# Altium integrated library CDE_Library.IntLib: 6171 symbols (part 19 of 25)
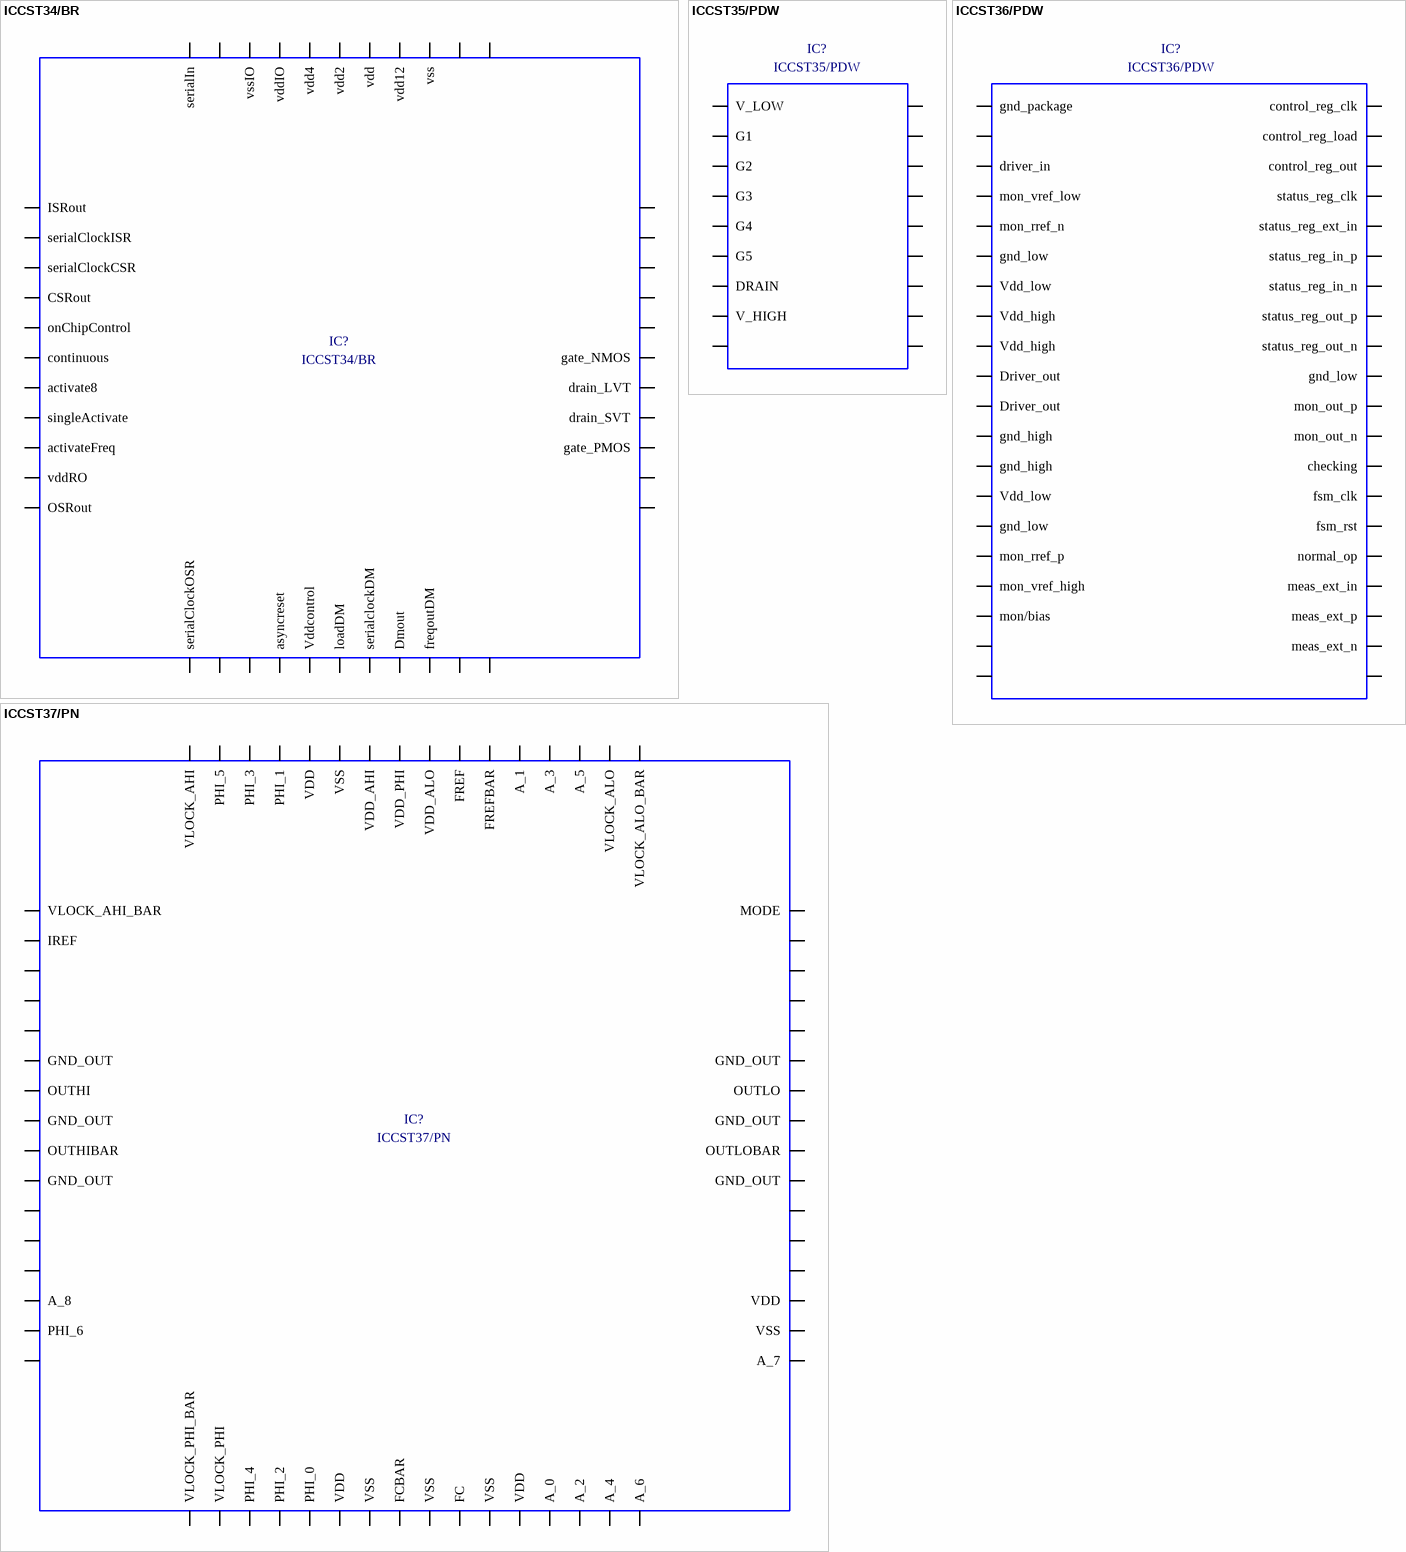
[diagram p275: symbols ICCST34/BR to ICCST37/PN]

## ICCST34/BR
designator IC?
ref. Bram Roseleer; Part Number: ICCST34/BR; Component Kind: Standard; Component Type: Standard; Designator: ICCST34/BR; Footprint: icv LCC/.1/44 (Yamaichi IC530444306); Library Reference: ICCST34/BR; Pin Count: 44
footprint icv LCC/.1/44 (Yamaichi IC530444306)
pins: 1 vdd2, 2 vdd4, 3 vddIO, 4 vssIO, 5, 6 serialIn, 7 ISRout, 8 serialClockISR, 9 serialClockCSR, 10 CSRout, 11 onChipControl, 12 continuous, 13 activate8, 14 singleActivate, 15 activateFreq, 16 vddRO, 17 OSRout, 18 serialClockOSR, 19, 20, 21 asyncreset, 22 Vddcontrol, 23 loadDM, 24 serialclockDM, 25 Dmout, 26 freqoutDM, 27, 28, 29, 30, 31 gate_PMOS, 32 drain_SVT, 33 drain_LVT, 34 gate_NMOS, 35, 36, 37, 38, 39, 40, 41, 42 vss, 43 vdd12, 44 vdd

## ICCST35/PDW
designator IC?
ref. Pieter De Wit; Part Number: ICCST35/PDW; Component Kind: Standard; Component Type: Standard; Designator: ICCST35/PDW; Footprint: icv DIP18-300 (3M Textool zif); Library Reference: ICCST35/PDW; Pin Count: 18
footprint icv DIP18-300 (3M Textool zif)
pins: 1 V_LOW, 2 G1, 3 G2, 4 G3, 5 G4, 6 G5, 7 DRAIN, 8 V_HIGH, 9, 10, 11, 12, 13, 14, 15, 16, 17, 18

## ICCST36/PDW
designator IC?
ref. Pieter De Wit; Part Number: ICCST36/PDW; Component Kind: Standard; Component Type: Standard; Designator: ICCST36/PDW; Footprint: icv DIP40-600 (Aries Zif 40-6554-10); Library Reference: ICCST36/PDW; Pin Count: 40
footprint icv DIP40-600 (Aries Zif 40-6554-10)
pins: 1 gnd_package, 2, 3 driver_in, 4 mon_vref_low, 5 mon_rref_n, 6 gnd_low, 7 Vdd_low, 8 Vdd_high, 9 Vdd_high, 10 Driver_out, 11 Driver_out, 12 gnd_high, 13 gnd_high, 14 Vdd_low, 15 gnd_low, 16 mon_rref_p, 17 mon_vref_high, 18 mon/bias, 19, 20, 21, 22 meas_ext_n, 23 meas_ext_p, 24 meas_ext_in, 25 normal_op, 26 fsm_rst, 27 fsm_clk, 28 checking, 29 mon_out_n, 30 mon_out_p, 31 gnd_low, 32 status_reg_out_n, 33 status_reg_out_p, 34 status_reg_in_n, 35 status_reg_in_p, 36 status_reg_ext_in, 37 status_reg_clk, 38 control_reg_out, 39 control_reg_load, 40 control_reg_clk

## ICCST37/PN
designator IC?
ref. Pieter Nuyts; Part Number: ICCST37/PN; Component Kind: Standard; Component Type: Standard; Designator: ICCST37/PN; Footprint: icv QFP/0.8mm/64 (Yamaichi IC510644692); Library Reference: ICCST37/PN; Pin Count: 64
footprint icv QFP/0.8mm/64 (Yamaichi IC510644692)
pins: 1 VLOCK_PHI_BAR, 2 VLOCK_PHI, 3 PHI_4, 4 PHI_2, 5 PHI_0, 6 VDD, 7 VSS, 8 FCBAR, 9 VSS, 10 FC, 11 VSS, 12 VDD, 13 A_0, 14 A_2, 15 A_4, 16 A_6, 17 A_7, 18 VSS, 19 VDD, 20, 21, 22, 23 GND_OUT, 24 OUTLOBAR, 25 GND_OUT, 26 OUTLO, 27 GND_OUT, 28, 29, 30, 31, 32 MODE, 33 VLOCK_ALO_BAR, 34 VLOCK_ALO, 35 A_5, 36 A_3, 37 A_1, 38 FREFBAR, 39 FREF, 40 VDD_ALO, 41 VDD_PHI, 42 VDD_AHI, 43 VSS, 44 VDD, 45 PHI_1, 46 PHI_3, 47 PHI_5, 48 VLOCK_AHI, 49 VLOCK_AHI_BAR, 50 IREF, 51, 52, 53, 54 GND_OUT, 55 OUTHI, 56 GND_OUT, 57 OUTHIBAR, 58 GND_OUT, 59, 60, 61, 62 A_8, 63 PHI_6, 64

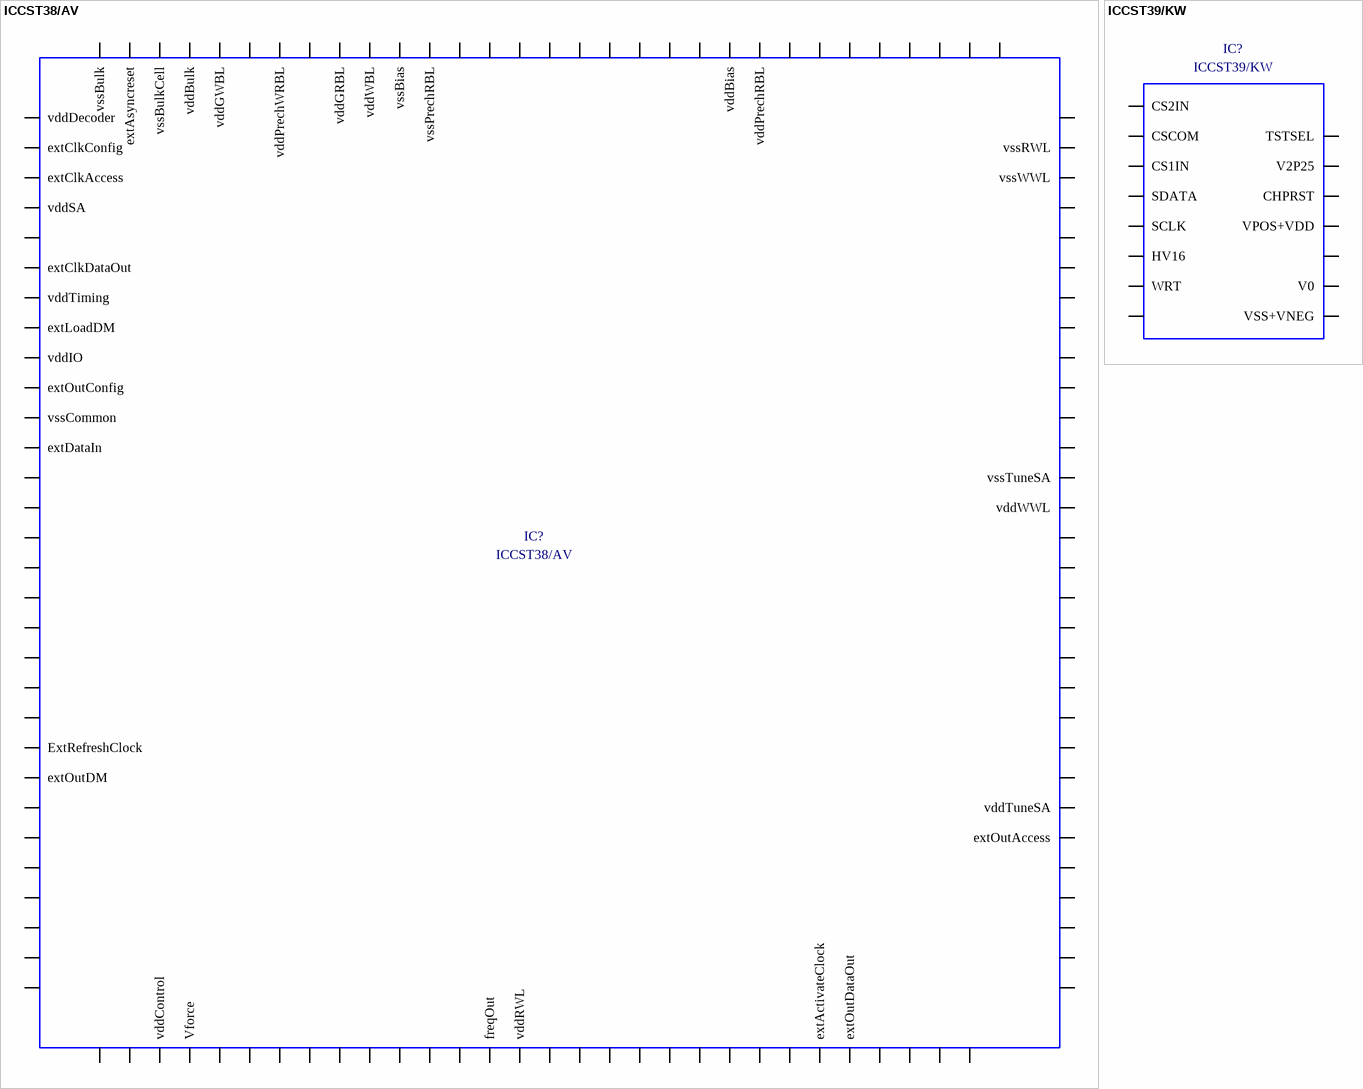
[diagram p214: symbols ICCST38/AV to ICCST39/KW]

## ICCST38/AV
designator IC?
ref. Anselme Vignon; Part Number: ICCST38/AV; Component Kind: Standard; Component Type: Standard; Designator: ICCST38/AV; Footprint: icv PGA/ZIF/.1/121 (Yamaichi NP89-12110-G4BF); Library Reference: ICCST38/AV; Pin Count: 121
footprint icv PGA/ZIF/.1/121 (Yamaichi NP89-12110-G4BF)
pins: 1 vddDecoder, 2 extClkConfig, 3 extClkAccess, 4 vddSA, 5, 6 extClkDataOut, 7 vddTiming, 8 extLoadDM, 9 vddIO, 10 extOutConfig, 11 vssCommon, 12 extDataIn, 13, 14, 15, 16, 17, 18, 19, 20, 21, 22 ExtRefreshClock, 23 extOutDM, 24, 25, 26, 27, 28, 29, 30, 31, 32, 33 vddControl, 34 Vforce, 35, 36, 37, 38, 39, 40, 41, 42, 43, 44 freqOut, 45 vddRWL, 46, 47, 48, 49, 50, 51, 52, 53, 54, 55 extActivateClock, 56 extOutDataOut, 57, 58, 59, 60, 61, 62, 63, 64, 65, 66 extOutAccess, 67 vddTuneSA, 68, 69, 70, 71, 72, 73, 74, 75, 76, 77 vddWWL, 78 vssTuneSA, 79, 80, 81, 82, 83, 84, 85, 86, 87, 88 vssWWL, 89 vssRWL, 90, 91, 92, 93, 94, 95, 96, 97, 98, 99 vddPrechRBL, 100 vddBias, 101, 102, 103, 104, 105, 106, 107, 108, 109, 110 vssPrechRBL, 111 vssBias, 112 vddWBL, 113 vddGRBL, 114, 115 vddPrechWRBL, 116, 117 vddGWBL, 118 vddBulk, 119 vssBulkCell, 120 extAsyncreset, 121 vssBulk

## ICCST39/KW
designator IC?
ref. Kristof Wouters; Part Number: ICCST39/KW; Component Kind: Standard; Component Type: Standard; Designator: ICCST39/KW; Footprint: smd ICCST39; Library Reference: ICCST39/KW; Pin Count: 15
footprint smd ICCST39
pins: 1 CS2IN, 2 CSCOM, 3 CS1IN, 4 SDATA, 5 SCLK, 6 HV16, 7 WRT, 8, 9 VSS+VNEG, 10 V0, 11, 12 VPOS+VDD, 13 CHPRST, 14 V2P25, 15 TSTSEL

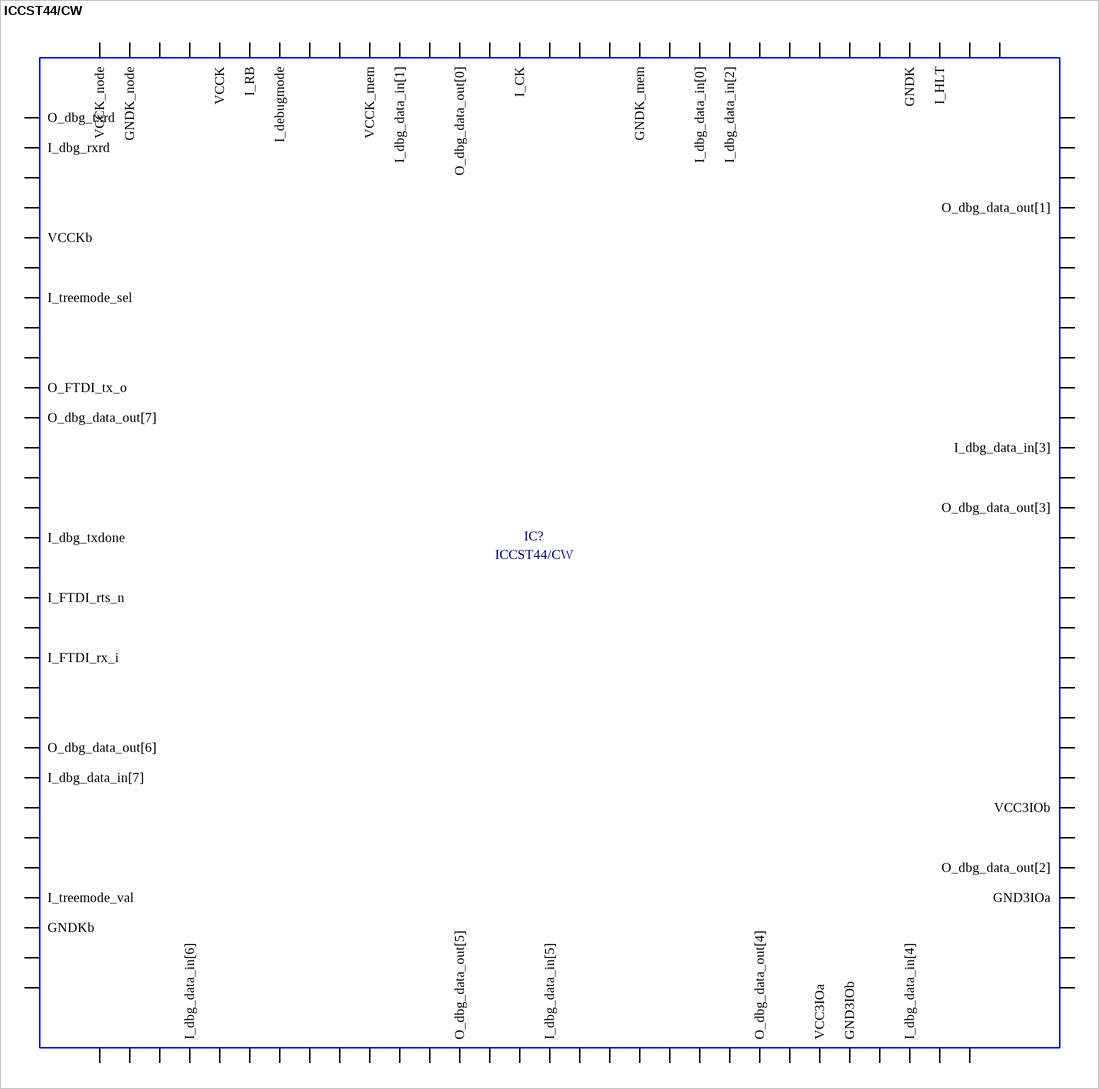
[diagram p215: symbol ICCST44/CW]

## ICCST44/CW
designator IC?
ref. Cedric Walravens; Part Number: ICCST44/CW; Component Kind: Standard; Component Type: Standard; Designator: ICCST44/CW; Footprint: icv PGA/ZIF/.1/121 (Yamaichi NP89-12110-G4BF); Library Reference: ICCST44/CW; Pin Count: 121
footprint icv PGA/ZIF/.1/121 (Yamaichi NP89-12110-G4BF)
pins: 1 O_dbg_txrd, 2 I_dbg_rxrd, 3, 4, 5 VCCKb, 6, 7 I_treemode_sel, 8, 9, 10 O_FTDI_tx_o, 11 O_dbg_data_out[7], 12, 13, 14, 15 I_dbg_txdone, 16, 17 I_FTDI_rts_n, 18, 19 I_FTDI_rx_i, 20, 21, 22 O_dbg_data_out[6], 23 I_dbg_data_in[7], 24, 25, 26, 27 I_treemode_val, 28 GNDKb, 29, 30, 31, 32, 33, 34 I_dbg_data_in[6], 35, 36, 37, 38, 39, 40, 41, 42, 43 O_dbg_data_out[5], 44, 45, 46 I_dbg_data_in[5], 47, 48, 49, 50, 51, 52, 53 O_dbg_data_out[4], 54, 55 VCC3IOa, 56 GND3IOb, 57, 58 I_dbg_data_in[4], 59, 60, 61, 62, 63, 64 GND3IOa, 65 O_dbg_data_out[2], 66, 67 VCC3IOb, 68, 69, 70, 71, 72, 73, 74, 75, 76, 77 O_dbg_data_out[3], 78, 79 I_dbg_data_in[3], 80, 81, 82, 83, 84, 85, 86, 87 O_dbg_data_out[1], 88, 89, 90, 91, 92, 93 I_HLT, 94 GNDK, 95, 96, 97, 98, 99, 100 I_dbg_data_in[2], 101 I_dbg_data_in[0], 102, 103 GNDK_mem, 104, 105, 106, 107 I_CK, 108, 109 O_dbg_data_out[0], 110, 111 I_dbg_data_in[1], 112 VCCK_mem, 113, 114, 115 I_debugmode, 116 I_RB, 117 VCCK, 118, 119, 120 GNDK_node, 121 VCCK_node

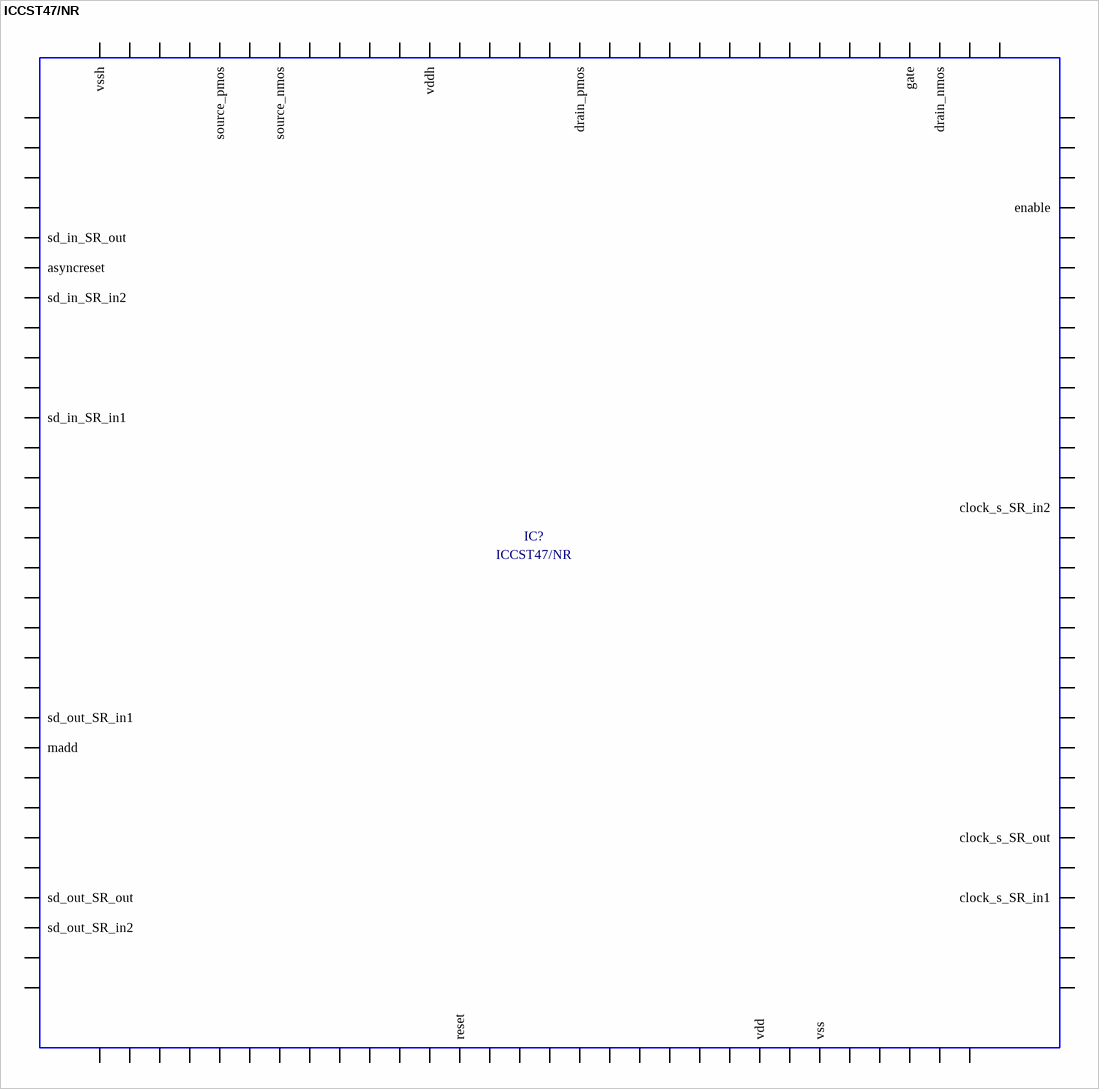
[diagram p216: symbol ICCST47/NR]

## ICCST47/NR
designator IC?
ref. Nele Reynders; Part Number: ICCST47/NR; Component Kind: Standard; Component Type: Standard; Designator: ICCST47/NR; Footprint: icv PGA/ZIF/.1/121 (Yamaichi NP89-12110-G4BF); Library Reference: ICCST47/NR; Pin Count: 121
footprint icv PGA/ZIF/.1/121 (Yamaichi NP89-12110-G4BF)
pins: 1, 2, 3, 4, 5 sd_in_SR_out, 6 asyncreset, 7 sd_in_SR_in2, 8, 9, 10, 11 sd_in_SR_in1, 12, 13, 14, 15, 16, 17, 18, 19, 20, 21 sd_out_SR_in1, 22 madd, 23, 24, 25, 26, 27 sd_out_SR_out, 28 sd_out_SR_in2, 29, 30, 31, 32, 33, 34, 35, 36, 37, 38, 39, 40, 41, 42, 43 reset, 44, 45, 46, 47, 48, 49, 50, 51, 52, 53 vdd, 54, 55 vss, 56, 57, 58, 59, 60, 61, 62, 63, 64 clock_s_SR_in1, 65, 66 clock_s_SR_out, 67, 68, 69, 70, 71, 72, 73, 74, 75, 76, 77 clock_s_SR_in2, 78, 79, 80, 81, 82, 83, 84, 85, 86, 87 enable, 88, 89, 90, 91, 92, 93 drain_nmos, 94 gate, 95, 96, 97, 98, 99, 100, 101, 102, 103, 104, 105 drain_pmos, 106, 107, 108, 109, 110 vddh, 111, 112, 113, 114, 115 source_nmos, 116, 117 source_pmos, 118, 119, 120, 121 vssh

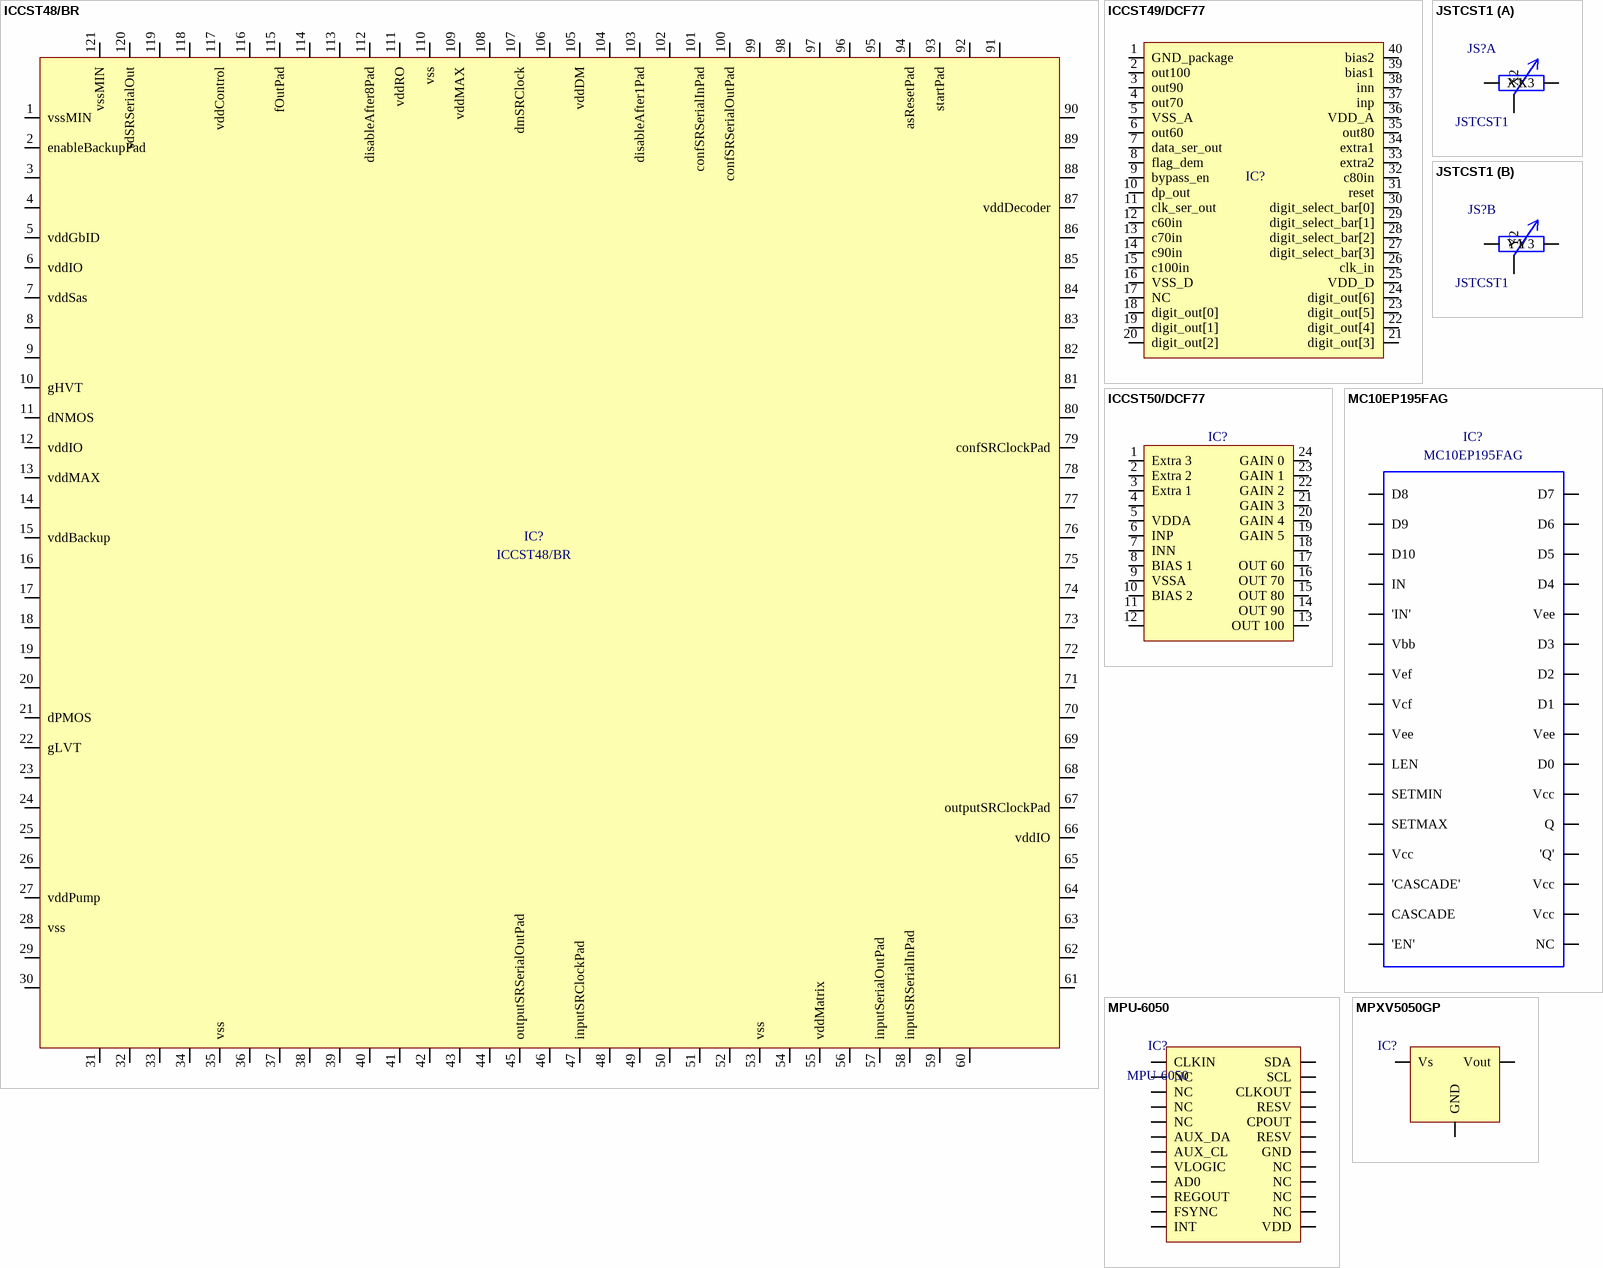
[diagram p217: symbols ICCST48/BR to MPXV5050GP]

## ICCST48/BR
designator IC?
ref. Bram Rooseleer; Part Number: ICCST38/AV; Component Kind: Standard; Component Type: Standard; Designator: ICCST38/AV; Footprint: icv PGA/ZIF/.1/121 (Yamaichi NP89-12110-G4BF); Library Reference: ICCST38/AV; Pin Count: 121
footprint icv PGA/ZIF/.1/121 (Yamaichi NP89-12110-G4BF)
pins: 1 vssMIN, 2 enableBackupPad, 3, 4, 5 vddGbID, 6 vddIO, 7 vddSas, 8, 9, 10 gHVT, 11 dNMOS, 12 vddIO, 13 vddMAX, 14, 15 vddBackup, 16, 17, 18, 19, 20, 21 dPMOS, 22 gLVT, 23, 24, 25, 26, 27 vddPump, 28 vss, 29, 30, 31, 32, 33, 34, 35 vss, 36, 37, 38, 39, 40, 41, 42, 43, 44, 45 outputSRSerialOutPad, 46, 47 inputSRClockPad, 48, 49, 50, 51, 52, 53 vss, 54, 55 vddMatrix, 56, 57 inputSerialOutPad, 58 inputSRSerialInPad, 59, 60, 61, 62, 63, 64, 65, 66 vddIO, 67 outputSRClockPad, 68, 69, 70, 71, 72, 73, 74, 75, 76, 77, 78, 79 confSRClockPad, 80, 81, 82, 83, 84, 85, 86, 87 vddDecoder, 88, 89, 90, 91, 92, 93 startPad, 94 asResetPad, 95, 96, 97, 98, 99, 100 confSRSerialOutPad, 101 confSRSerialInPad, 102, 103 disableAfter1Pad, 104, 105 vddDM, 106, 107 dmSRClock, 108, 109 vddMAX, 110 vss, 111 vddRO, 112 disableAfter8Pad, 113, 114, 115 fOutPad, 116, 117 vddControl, 118, 119, 120 sdSRSerialOut, 121 vssMIN

## ICCST49/DCF77
designator IC?  (value not drawn)
ref. Bram Rooseleer
footprint icv DIP40-600
pins: 1 GND_package, 2 out100, 3 out90, 4 out70, 5 VSS_A, 6 out60, 7 data_ser_out, 8 flag_dem, 9 bypass_en, 10 dp_out, 11 clk_ser_out, 12 c60in, 13 c70in, 14 c90in, 15 c100in, 16 VSS_D, 17 NC, 18 digit_out[0], 19 digit_out[1], 20 digit_out[2], 21 digit_out[3], 22 digit_out[4], 23 digit_out[5], 24 digit_out[6], 25 VDD_D, 26 clk_in, 27 digit_select_bar[3], 28 digit_select_bar[2], 29 digit_select_bar[1], 30 digit_select_bar[0], 31 reset, 32 c80in, 33 extra2, 34 extra1, 35 out80, 36 VDD_A, 37 inp, 38 inn, 39 bias1, 40 bias2

## ICCST50/DCF77
designator IC?, comment DCF77  (value not drawn)
ref. Steven Lauwereins
footprint icv DIP24-600 (Aries Zif 24-6554-11)
pins: 1 Extra 3, 2 Extra 2, 3 Extra 1, 4, 5 VDDA, 6 INP, 7 INN, 8 BIAS 1, 9 VSSA, 10 BIAS 2, 11, 12, 13 OUT 100, 14 OUT 90, 15 OUT 80, 16 OUT 70, 17 OUT 60, 18, 19 GAIN 5, 20 GAIN 4, 21 GAIN 3, 22 GAIN 2, 23 GAIN 1, 24 GAIN 0

## JSTCST1
designator JS?
joystick custom 1; Part Number: JSTCST1; Component Kind: Standard; Component Type: Standard; Designator: JSTCST1; Footprint: joystick custom 1; Library Reference: JSTCST1; Pin Count: 6
footprint joystick custom 1
part A pins: 1 X1, 2 X2, 3 X3
part B pins: 4 Y1, 5 Y2, 6 Y3

## MC10EP195FAG
designator IC?
ref. Sven Decock Programmable delay chip; Part Number: MC10EP195FAG; Component Kind: Standard; Component Type: Standard; Designator: MC10EP195FAG; Footprint: smd TQFP/32; Library Reference: MC10EP195FAG; Pin Count: 32
footprint smd TQFP/32
pins: 1 D8, 2 D9, 3 D10, 4 IN, 5 'IN', 6 Vbb, 7 Vef, 8 Vcf, 9 Vee, 10 LEN, 11 SETMIN, 12 SETMAX, 13 Vcc, 14 'CASCADE', 15 CASCADE, 16 'EN', 17 NC, 18 Vcc, 19 Vcc, 20 'Q', 21 Q, 22 Vcc, 23 D0, 24 Vee, 25 D1, 26 D2, 27 D3, 28 Vee, 29 D4, 30 D5, 31 D6, 32 D7

## MPU-6050
designator IC?
Gyro/Accelerometer
footprint smd QFN/24 (4x4mm p0.50mm)
pins: 1 CLKIN, 2 NC, 3 NC, 4 NC, 5 NC, 6 AUX_DA, 7 AUX_CL, 8 VLOGIC, 9 AD0, 10 REGOUT, 11 FSYNC, 12 INT, 13 VDD, 14 NC, 15 NC, 16 NC, 17 NC, 18 GND, 19 RESV, 20 CPOUT, 21 RESV, 22 CLKOUT, 23 SCL, 24 SDA

## MPXV5050GP
designator IC?  (value not drawn)
Freescale PRESSURE SENSOR, GAUGE 7.25PSI, 8SOP
footprint MPXV5050GP (Pressure sensor Freescale)
pins: 2 Vs, 3 GND, 4 Vout

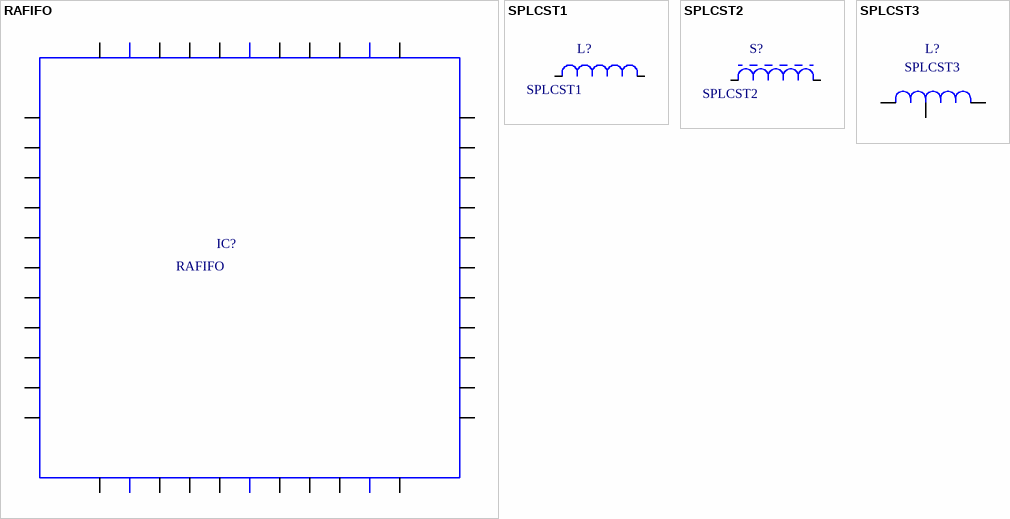
[diagram p218: symbols RAFIFO to SPLCST3]

## RAFIFO
designator IC?
ref. Peter Geens; Part Number: RAFIFO; Component Kind: Standard; Component Type: Standard; Designator: RAFIFO; Footprint: icv PLCC/ZIF/44; Library Reference: RAFIFO; Pin Count: 44
footprint icv PLCC/ZIF/44
pins: 1, 2, 3, 4, 5, 6, 7, 8, 9, 10, 11, 12, 13, 14, 15, 16, 17, 18, 19, 20, 21, 22, 23, 24, 25, 26, 27, 28, 29, 30, 31, 32, 33, 34, 35, 36, 37, 38, 39, 40, 41, 42, 43, 44

## SPLCST1
designator L?
spoel custom 1; Part Number: SPLCST1; Component Kind: Standard; Component Type: Standard; Designator: SPLCST1; Footprint: spoel (.9/.6/.4/100/36); Library Reference: SPLCST1; Pin Count: 2
footprint spoel (.9/.6/.4/100/36)
pins: 1, 3

## SPLCST2
designator S?
spoel custom 2; Part Number: SPLCST2; Component Kind: Standard; Component Type: Standard; Designator: SPLCST2; Footprint: spoel custom 2; Library Reference: SPLCST2; Pin Count: 2
footprint spoel custom 2
pins: 1, 2

## SPLCST3
designator L?
spoel custom 3; Part Number: SPLCST3; Component Kind: Standard; Component Type: Standard; Designator: SPLCST3; Footprint: spoel custom 3; Library Reference: SPLCST3; Pin Count: 3
footprint spoel custom 3
pins: 1, 2, 3


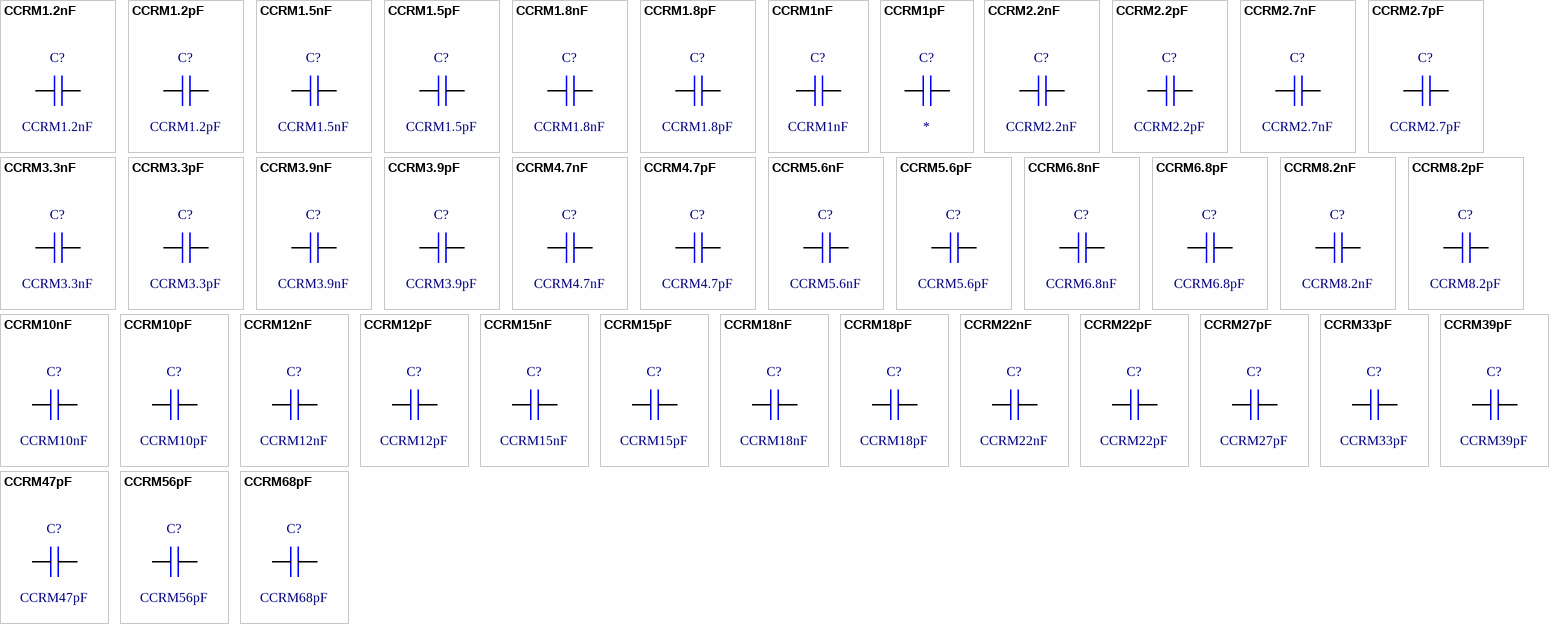
[diagram p219: symbols CCRM1.2nF to CCRM68pF]

## CCRM1.2nF
designator C?
ceramische capaciteit 1,2nF/100V; Part Number: CCRM1.2nF; Component Kind: Standard; Component Type: Standard; Designator: CCRM1.2nF; Footprint: cap 1 (.25/.08/.2/80/36); Library Reference: CCRM1.2nF; Pin Count: 2
footprint cap 1 (.25/.08/.2/80/36)
pins: 1, 2

## CCRM1.2pF
designator C?
ceramische capaciteit 1,2pF/100V; Part Number: CCRM1.2pF; Component Kind: Standard; Component Type: Standard; Designator: CCRM1.2pF; Footprint: cap 1 (.25/.08/.2/80/36); Library Reference: CCRM1.2pF; Pin Count: 2
footprint cap 1 (.25/.08/.2/80/36)
pins: 1, 2

## CCRM1.5nF
designator C?
ceramische capaciteit 1,5nF/100V; Part Number: CCRM1.5nF; Component Kind: Standard; Component Type: Standard; Designator: CCRM1.5nF; Footprint: cap 1 (.25/.08/.2/80/36); Library Reference: CCRM1.5nF; Pin Count: 2
footprint cap 1 (.25/.08/.2/80/36)
pins: 1, 2

## CCRM1.5pF
designator C?
ceramische capaciteit 1,5pF/100V; Part Number: CCRM1.5pF; Component Kind: Standard; Component Type: Standard; Designator: CCRM1.5pF; Footprint: cap 1 (.25/.08/.2/80/36); Library Reference: CCRM1.5pF; Pin Count: 2
footprint cap 1 (.25/.08/.2/80/36)
pins: 1, 2

## CCRM1.8nF
designator C?
ceramische capaciteit 1,8nF/100V; Part Number: CCRM1.8nF; Component Kind: Standard; Component Type: Standard; Designator: CCRM1.8nF; Footprint: cap 1 (.25/.08/.2/80/36); Library Reference: CCRM1.8nF; Pin Count: 2
footprint cap 1 (.25/.08/.2/80/36)
pins: 1, 2

## CCRM1.8pF
designator C?
ceramische capaciteit 1,8pF/100V; Part Number: CCRM1.8pF; Component Kind: Standard; Component Type: Standard; Designator: CCRM1.8pF; Footprint: cap 1 (.25/.08/.2/80/36); Library Reference: CCRM1.8pF; Pin Count: 2
footprint cap 1 (.25/.08/.2/80/36)
pins: 1, 2

## CCRM1nF
designator C?
ceramische capaciteit 1nF/100V; Part Number: CCRM1nF; Component Kind: Standard; Component Type: Standard; Designator: CCRM1nF; Footprint: cap 1 (.25/.08/.2/80/36); Library Reference: CCRM1nF; Pin Count: 2
footprint cap 1 (.25/.08/.2/80/36)
pins: 1, 2

## CCRM1pF
designator C?
ceramische capaciteit 1pF/100V
footprint cap 1 (.25/.08/.2/80/36)
pins: 1, 2

## CCRM2.2nF
designator C?
ceramische capaciteit 2,2nF/100V; Part Number: CCRM2.2nF; Component Kind: Standard; Component Type: Standard; Designator: CCRM2.2nF; Footprint: cap 1 (.25/.08/.2/80/36); Library Reference: CCRM2.2nF; Pin Count: 2
footprint cap 1 (.25/.08/.2/80/36)
pins: 1, 2

## CCRM2.2pF
designator C?
ceramische capaciteit 2,2pF/100V; Part Number: CCRM2.2pF; Component Kind: Standard; Component Type: Standard; Designator: CCRM2.2pF; Footprint: cap 1 (.25/.08/.2/80/36); Library Reference: CCRM2.2pF; Pin Count: 2
footprint cap 1 (.25/.08/.2/80/36)
pins: 1, 2

## CCRM2.7nF
designator C?
ceramische capaciteit 2,7nF/100V; Part Number: CCRM2.7nF; Component Kind: Standard; Component Type: Standard; Designator: CCRM2.7nF; Footprint: cap 1 (.25/.08/.2/80/36); Library Reference: CCRM2.7nF; Pin Count: 2
footprint cap 1 (.25/.08/.2/80/36)
pins: 1, 2

## CCRM2.7pF
designator C?
ceramische capaciteit 2,7pF/100V; Part Number: CCRM2.7pF; Component Kind: Standard; Component Type: Standard; Designator: CCRM2.7pF; Footprint: cap 1 (.25/.08/.2/80/36); Library Reference: CCRM2.7pF; Pin Count: 2
footprint cap 1 (.25/.08/.2/80/36)
pins: 1, 2

## CCRM3.3nF
designator C?
ceramische capaciteit 3,3nF/100V; Part Number: CCRM3.3nF; Component Kind: Standard; Component Type: Standard; Designator: CCRM3.3nF; Footprint: cap 1 (.25/.08/.2/80/36); Library Reference: CCRM3.3nF; Pin Count: 2
footprint cap 1 (.25/.08/.2/80/36)
pins: 1, 2

## CCRM3.3pF
designator C?
ceramische capaciteit 3,3pF/100V; Part Number: CCRM3.3pF; Component Kind: Standard; Component Type: Standard; Designator: CCRM3.3pF; Footprint: cap 1 (.25/.08/.2/80/36); Library Reference: CCRM3.3pF; Pin Count: 2
footprint cap 1 (.25/.08/.2/80/36)
pins: 1, 2

## CCRM3.9nF
designator C?
ceramische capaciteit 3,9nF/100V; Part Number: CCRM3.9nF; Component Kind: Standard; Component Type: Standard; Designator: CCRM3.9nF; Footprint: cap 1 (.25/.08/.2/80/36); Library Reference: CCRM3.9nF; Pin Count: 2
footprint cap 1 (.25/.08/.2/80/36)
pins: 1, 2

## CCRM3.9pF
designator C?
ceramische capaciteit 3,9pF/100V; Part Number: CCRM3.9pF; Component Kind: Standard; Component Type: Standard; Designator: CCRM3.9pF; Footprint: cap 1 (.25/.08/.2/80/36); Library Reference: CCRM3.9pF; Pin Count: 2
footprint cap 1 (.25/.08/.2/80/36)
pins: 1, 2

## CCRM4.7nF
designator C?
ceramische capaciteit 4,7nF/100V; Part Number: CCRM4.7nF; Component Kind: Standard; Component Type: Standard; Designator: CCRM4.7nF; Footprint: cap 1 (.25/.08/.2/80/36); Library Reference: CCRM4.7nF; Pin Count: 2
footprint cap 1 (.25/.08/.2/80/36)
pins: 1, 2

## CCRM4.7pF
designator C?
ceramische capaciteit 4,7pF/100V; Part Number: CCRM4.7pF; Component Kind: Standard; Component Type: Standard; Designator: CCRM4.7pF; Footprint: cap 1 (.25/.08/.2/80/36); Library Reference: CCRM4.7pF; Pin Count: 2
footprint cap 1 (.25/.08/.2/80/36)
pins: 1, 2

## CCRM5.6nF
designator C?
ceramische capaciteit 5,6nF/100V; Part Number: CCRM5.6nF; Component Kind: Standard; Component Type: Standard; Designator: CCRM5.6nF; Footprint: cap 1 (.25/.08/.2/80/36); Library Reference: CCRM5.6nF; Pin Count: 2
footprint cap 1 (.25/.08/.2/80/36)
pins: 1, 2

## CCRM5.6pF
designator C?
ceramische capaciteit 5,6pF/100V; Part Number: CCRM5.6pF; Component Kind: Standard; Component Type: Standard; Designator: CCRM5.6pF; Footprint: cap 1 (.25/.08/.2/80/36); Library Reference: CCRM5.6pF; Pin Count: 2
footprint cap 1 (.25/.08/.2/80/36)
pins: 1, 2

## CCRM6.8nF
designator C?
ceramische capaciteit 6,8nF/100V; Part Number: CCRM6.8nF; Component Kind: Standard; Component Type: Standard; Designator: CCRM6.8nF; Footprint: cap 1 (.25/.08/.2/80/36); Library Reference: CCRM6.8nF; Pin Count: 2
footprint cap 1 (.25/.08/.2/80/36)
pins: 1, 2

## CCRM6.8pF
designator C?
ceramische capaciteit 6,8pF/100V; Part Number: CCRM6.8pF; Component Kind: Standard; Component Type: Standard; Designator: CCRM6.8pF; Footprint: cap 1 (.25/.08/.2/80/36); Library Reference: CCRM6.8pF; Pin Count: 2
footprint cap 1 (.25/.08/.2/80/36)
pins: 1, 2

## CCRM8.2nF
designator C?
ceramische capaciteit 8,2nF/100V; Part Number: CCRM8.2nF; Component Kind: Standard; Component Type: Standard; Designator: CCRM8.2nF; Footprint: cap 1 (.25/.08/.2/80/36); Library Reference: CCRM8.2nF; Pin Count: 2
footprint cap 1 (.25/.08/.2/80/36)
pins: 1, 2

## CCRM8.2pF
designator C?
ceramische capaciteit 8,2pF/100V; Part Number: CCRM8.2pF; Component Kind: Standard; Component Type: Standard; Designator: CCRM8.2pF; Footprint: cap 1 (.25/.08/.2/80/36); Library Reference: CCRM8.2pF; Pin Count: 2
footprint cap 1 (.25/.08/.2/80/36)
pins: 1, 2

## CCRM10nF
designator C?
ceramische capaciteit 10nF/100V; Part Number: CCRM10nF; Component Kind: Standard; Component Type: Standard; Designator: CCRM10nF; Footprint: cap 1 (.25/.08/.2/80/36); Library Reference: CCRM10nF; Pin Count: 2
footprint cap 1 (.25/.08/.2/80/36)
pins: 1, 2

## CCRM10pF
designator C?
ceramische capaciteit 10pF/100V; Part Number: CCRM10pF; Component Kind: Standard; Component Type: Standard; Designator: CCRM10pF; Footprint: cap 1 (.25/.08/.2/80/36); Library Reference: CCRM10pF; Pin Count: 2
footprint cap 1 (.25/.08/.2/80/36)
pins: 1, 2

## CCRM12nF
designator C?
ceramische capaciteit 12nF/100V; Part Number: CCRM12nF; Component Kind: Standard; Component Type: Standard; Designator: CCRM12nF; Footprint: cap 1 (.25/.08/.2/80/36); Library Reference: CCRM12nF; Pin Count: 2
footprint cap 1 (.25/.08/.2/80/36)
pins: 1, 2

## CCRM12pF
designator C?
ceramische capaciteit 12pF/100V; Part Number: CCRM12pF; Component Kind: Standard; Component Type: Standard; Designator: CCRM12pF; Footprint: cap 1 (.25/.08/.2/80/36); Library Reference: CCRM12pF; Pin Count: 2
footprint cap 1 (.25/.08/.2/80/36)
pins: 1, 2

## CCRM15nF
designator C?
ceramische capaciteit 15nF/100V; Part Number: CCRM15nF; Component Kind: Standard; Component Type: Standard; Designator: CCRM15nF; Footprint: cap 1 (.25/.08/.2/80/36); Library Reference: CCRM15nF; Pin Count: 2
footprint cap 1 (.25/.08/.2/80/36)
pins: 1, 2

## CCRM15pF
designator C?
ceramische capaciteit 15pF/100V; Part Number: CCRM15pF; Component Kind: Standard; Component Type: Standard; Designator: CCRM15pF; Footprint: cap 1 (.25/.08/.2/80/36); Library Reference: CCRM15pF; Pin Count: 2
footprint cap 1 (.25/.08/.2/80/36)
pins: 1, 2

## CCRM18nF
designator C?
ceramische capaciteit 18nF/100V; Part Number: CCRM18nF; Component Kind: Standard; Component Type: Standard; Designator: CCRM18nF; Footprint: cap 1 (.25/.08/.2/80/36); Library Reference: CCRM18nF; Pin Count: 2
footprint cap 1 (.25/.08/.2/80/36)
pins: 1, 2

## CCRM18pF
designator C?
ceramische capaciteit 18pF/100V; Part Number: CCRM18pF; Component Kind: Standard; Component Type: Standard; Designator: CCRM18pF; Footprint: cap 1 (.25/.08/.2/80/36); Library Reference: CCRM18pF; Pin Count: 2
footprint cap 1 (.25/.08/.2/80/36)
pins: 1, 2

## CCRM22nF
designator C?
ceramische capaciteit 22nF/100V; Part Number: CCRM22nF; Component Kind: Standard; Component Type: Standard; Designator: CCRM22nF; Footprint: cap 1 (.25/.08/.2/80/36); Library Reference: CCRM22nF; Pin Count: 2
footprint cap 1 (.25/.08/.2/80/36)
pins: 1, 2

## CCRM22pF
designator C?
ceramische capaciteit 22pF/100V; Part Number: CCRM22pF; Component Kind: Standard; Component Type: Standard; Designator: CCRM22pF; Footprint: cap 1 (.25/.08/.2/80/36); Library Reference: CCRM22pF; Pin Count: 2
footprint cap 1 (.25/.08/.2/80/36)
pins: 1, 2

## CCRM27pF
designator C?
ceramische capaciteit 27pF/100V; Part Number: CCRM27pF; Component Kind: Standard; Component Type: Standard; Designator: CCRM27pF; Footprint: cap 1 (.25/.08/.2/80/36); Library Reference: CCRM27pF; Pin Count: 2
footprint cap 1 (.25/.08/.2/80/36)
pins: 1, 2

## CCRM33pF
designator C?
ceramische capaciteit 33pF/100V; Part Number: CCRM33pF; Component Kind: Standard; Component Type: Standard; Designator: CCRM33pF; Footprint: cap 1 (.25/.08/.2/80/36); Library Reference: CCRM33pF; Pin Count: 2
footprint cap 1 (.25/.08/.2/80/36)
pins: 1, 2

## CCRM39pF
designator C?
ceramische capaciteit 39pF/100V; Part Number: CCRM39pF; Component Kind: Standard; Component Type: Standard; Designator: CCRM39pF; Footprint: cap 1 (.25/.08/.2/80/36); Library Reference: CCRM39pF; Pin Count: 2
footprint cap 1 (.25/.08/.2/80/36)
pins: 1, 2

## CCRM47pF
designator C?
ceramische capaciteit 47pF/100V; Part Number: CCRM47pF; Component Kind: Standard; Component Type: Standard; Designator: CCRM47pF; Footprint: cap 1 (.25/.08/.2/80/36); Library Reference: CCRM47pF; Pin Count: 2
footprint cap 1 (.25/.08/.2/80/36)
pins: 1, 2

## CCRM56pF
designator C?
ceramische capaciteit 56pF/100V; Part Number: CCRM56pF; Component Kind: Standard; Component Type: Standard; Designator: CCRM56pF; Footprint: cap 1 (.25/.08/.2/80/36); Library Reference: CCRM56pF; Pin Count: 2
footprint cap 1 (.25/.08/.2/80/36)
pins: 1, 2

## CCRM68pF
designator C?
ceramische capaciteit 68pF/100V; Part Number: CCRM68pF; Component Kind: Standard; Component Type: Standard; Designator: CCRM68pF; Footprint: cap 1 (.25/.08/.2/80/36); Library Reference: CCRM68pF; Pin Count: 2
footprint cap 1 (.25/.08/.2/80/36)
pins: 1, 2

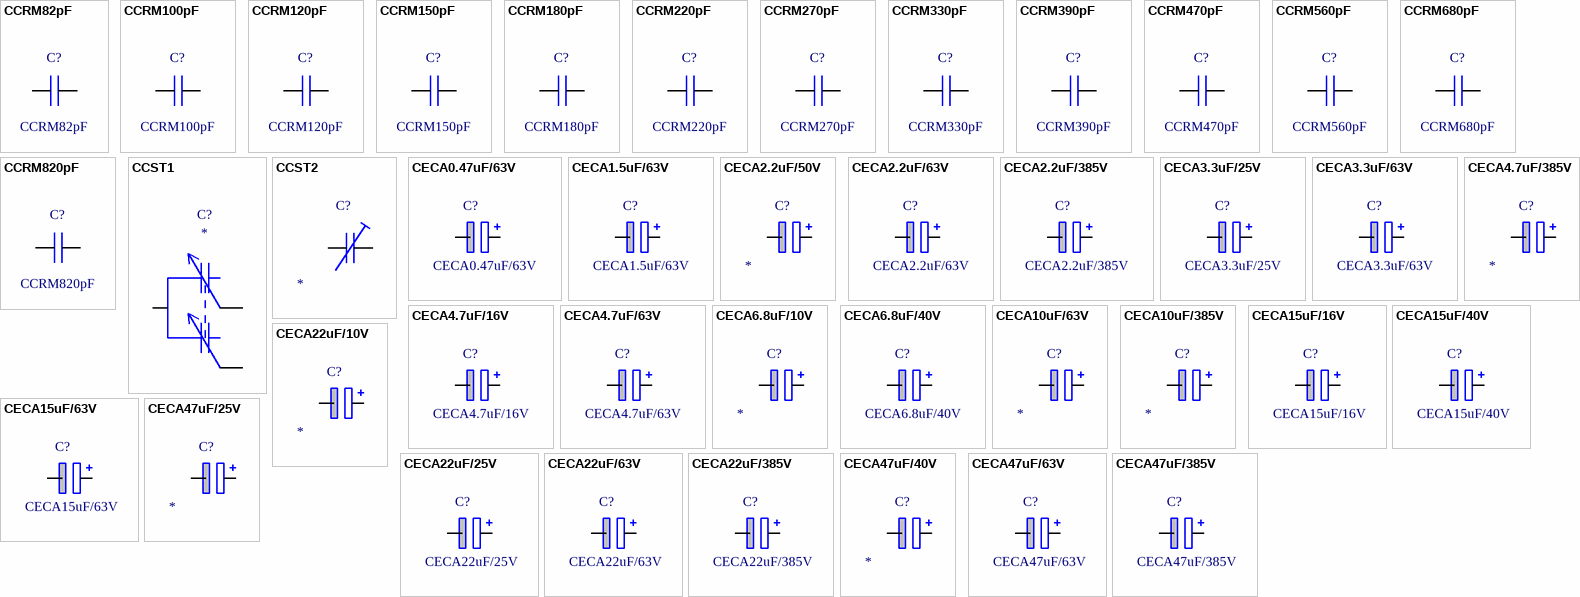
[diagram p220: symbols CCRM82pF to CECA47uF/385V]

## CCRM82pF
designator C?
ceramische capaciteit 82pF/100V; Part Number: CCRM82pF; Component Kind: Standard; Component Type: Standard; Designator: CCRM82pF; Footprint: cap 1 (.25/.08/.2/80/36); Library Reference: CCRM82pF; Pin Count: 2
footprint cap 1 (.25/.08/.2/80/36)
pins: 1, 2

## CCRM100pF
designator C?
ceramische capaciteit 100pF/100V; Part Number: CCRM100pF; Component Kind: Standard; Component Type: Standard; Designator: CCRM100pF; Footprint: cap 1 (.25/.08/.2/80/36); Library Reference: CCRM100pF; Pin Count: 2
footprint cap 1 (.25/.08/.2/80/36)
pins: 1, 2

## CCRM120pF
designator C?
ceramische capaciteit 120pF/100V; Part Number: CCRM120pF; Component Kind: Standard; Component Type: Standard; Designator: CCRM120pF; Footprint: cap 1 (.25/.08/.2/80/36); Library Reference: CCRM120pF; Pin Count: 2
footprint cap 1 (.25/.08/.2/80/36)
pins: 1, 2

## CCRM150pF
designator C?
ceramische capaciteit 150pF/100V; Part Number: CCRM150pF; Component Kind: Standard; Component Type: Standard; Designator: CCRM150pF; Footprint: cap 1 (.25/.08/.2/80/36); Library Reference: CCRM150pF; Pin Count: 2
footprint cap 1 (.25/.08/.2/80/36)
pins: 1, 2

## CCRM180pF
designator C?
ceramische capaciteit 180pF/100V; Part Number: CCRM180pF; Component Kind: Standard; Component Type: Standard; Designator: CCRM180pF; Footprint: cap 1 (.25/.08/.2/80/36); Library Reference: CCRM180pF; Pin Count: 2
footprint cap 1 (.25/.08/.2/80/36)
pins: 1, 2

## CCRM220pF
designator C?
ceramische capaciteit 220pF/100V; Part Number: CCRM220pF; Component Kind: Standard; Component Type: Standard; Designator: CCRM220pF; Footprint: cap 1 (.25/.08/.2/80/36); Library Reference: CCRM220pF; Pin Count: 2
footprint cap 1 (.25/.08/.2/80/36)
pins: 1, 2

## CCRM270pF
designator C?
ceramische capaciteit 270pF/100V; Part Number: CCRM270pF; Component Kind: Standard; Component Type: Standard; Designator: CCRM270pF; Footprint: cap 1 (.25/.08/.2/80/36); Library Reference: CCRM270pF; Pin Count: 2
footprint cap 1 (.25/.08/.2/80/36)
pins: 1, 2

## CCRM330pF
designator C?
ceramische capaciteit 330pF/100V; Part Number: CCRM330pF; Component Kind: Standard; Component Type: Standard; Designator: CCRM330pF; Footprint: cap 1 (.25/.08/.2/80/36); Library Reference: CCRM330pF; Pin Count: 2
footprint cap 1 (.25/.08/.2/80/36)
pins: 1, 2

## CCRM390pF
designator C?
ceramische capaciteit 390pF/100V; Part Number: CCRM390pF; Component Kind: Standard; Component Type: Standard; Designator: CCRM390pF; Footprint: cap 1 (.25/.08/.2/80/36); Library Reference: CCRM390pF; Pin Count: 2
footprint cap 1 (.25/.08/.2/80/36)
pins: 1, 2

## CCRM470pF
designator C?
ceramische capaciteit 470pF/100V; Part Number: CCRM470pF; Component Kind: Standard; Component Type: Standard; Designator: CCRM470pF; Footprint: cap 1 (.25/.08/.2/80/36); Library Reference: CCRM470pF; Pin Count: 2
footprint cap 1 (.25/.08/.2/80/36)
pins: 1, 2

## CCRM560pF
designator C?
ceramische capaciteit 560pF/100V; Part Number: CCRM560pF; Component Kind: Standard; Component Type: Standard; Designator: CCRM560pF; Footprint: cap 1 (.25/.08/.2/80/36); Library Reference: CCRM560pF; Pin Count: 2
footprint cap 1 (.25/.08/.2/80/36)
pins: 1, 2

## CCRM680pF
designator C?
ceramische capaciteit 680pF/100V; Part Number: CCRM680pF; Component Kind: Standard; Component Type: Standard; Designator: CCRM680pF; Footprint: cap 1 (.25/.08/.2/80/36); Library Reference: CCRM680pF; Pin Count: 2
footprint cap 1 (.25/.08/.2/80/36)
pins: 1, 2

## CCRM820pF
designator C?
ceramische capaciteit 820pF/100V; Part Number: CCRM820pF; Component Kind: Standard; Component Type: Standard; Designator: CCRM820pF; Footprint: cap 1 (.25/.08/.2/80/36); Library Reference: CCRM820pF; Pin Count: 2
footprint cap 1 (.25/.08/.2/80/36)
pins: 1, 2

## CCST1
designator C?
capaciteit custom 1
footprint cap custom 1
pins: 1, 2, 3

## CCST2
designator C?
capaciteit custom 2
footprint smd TCCST1
pins: 2, 5

## CECA0.47uF/63V
designator C?
elektrolytische condensator axiaal 0.47uF/63V; Part Number: CECA0.47uF/63V; Component Kind: Standard; Component Type: Standard; Designator: CECA0.47uF/63V; Footprint: cap 48 pol (.46/.2/.6/125/36); Library Reference: CECA0.47uF/63V; Pin Count: 2
footprint cap 48 pol (.46/.2/.6/125/36)
pins: 1, 2

## CECA1.5uF/63V
designator C?
elektrolytische condensator axiaal 1.5uF/63V; Part Number: CECA1.5uF/63V; Component Kind: Standard; Component Type: Standard; Designator: CECA1.5uF/63V; Footprint: cap 48 pol (.46/.2/.6/125/36); Library Reference: CECA1.5uF/63V; Pin Count: 2
footprint cap 48 pol (.46/.2/.6/125/36)
pins: 1, 2

## CECA2.2uF/50V
designator C?
elektrolytische condensator axiaal 2.2uF/50V
footprint cap 54 pol (.54/.26/.7/125/36)
pins: 1, 2

## CECA2.2uF/63V
designator C?
elektrolytische condensator axiaal 2.2uF/63V; Part Number: CECA2.2uF/63V; Component Kind: Standard; Component Type: Standard; Designator: CECA2.2uF/63V; Footprint: cap 48 pol (.46/.2/.6/125/36); Library Reference: CECA2.2uF/63V; Pin Count: 2
footprint cap 48 pol (.46/.2/.6/125/36)
pins: 1, 2

## CECA2.2uF/385V
designator C?
elektrolytische condensator axiaal 2.2uF/385V; Part Number: CECA2.2uF/385V; Component Kind: Standard; Component Type: Standard; Designator: CECA2.2uF/385V; Footprint: cap 53 pol (.74/.4/.9/125/43); Library Reference: CECA2.2uF/385V; Pin Count: 2
footprint cap 53 pol (.74/.4/.9/125/43)
pins: 1, 2

## CECA3.3uF/25V
designator C?
elektrolytische condensator axiaal 3.3uF/25V; Part Number: CECA3.3uF/25V; Component Kind: Standard; Component Type: Standard; Designator: CECA3.3uF/25V; Footprint: cap 47 pol (.46/.14/.6/125/36); Library Reference: CECA3.3uF/25V; Pin Count: 2
footprint cap 47 pol (.46/.14/.6/125/36)
pins: 1, 2

## CECA3.3uF/63V
designator C?
elektrolytische condensator axiaal 3.3uF/63V; Part Number: CECA3.3uF/63V; Component Kind: Standard; Component Type: Standard; Designator: CECA3.3uF/63V; Footprint: cap 48 pol (.46/.2/.6/125/36); Library Reference: CECA3.3uF/63V; Pin Count: 2
footprint cap 48 pol (.46/.2/.6/125/36)
pins: 1, 2

## CECA4.7uF/16V
designator C?
elektrolytische condensator axiaal 4.7uF/16V; Part Number: CECA4.7uF/16V; Component Kind: Standard; Component Type: Standard; Designator: CECA4.7uF/16V; Footprint: cap 47 pol (.46/.14/.6/125/36); Library Reference: CECA4.7uF/16V; Pin Count: 2
footprint cap 47 pol (.46/.14/.6/125/36)
pins: 1, 2

## CECA4.7uF/63V
designator C?
elektrolytische condensator axiaal 4.7uF/63V; Part Number: CECA4.7uF/63V; Component Kind: Standard; Component Type: Standard; Designator: CECA4.7uF/63V; Footprint: cap 48 pol (.46/.2/.6/125/36); Library Reference: CECA4.7uF/63V; Pin Count: 2
footprint cap 48 pol (.46/.2/.6/125/36)
pins: 1, 2

## CECA4.7uF/385V
designator C?
elektrolytische condensator axiaal 4.7uF/385V
footprint cap 55 pol (1/.4/1.2/125/43)
pins: 1, 2

## CECA6.8uF/10V
designator C?
elektrolytische condensator axiaal 6.8uF/10V
footprint cap 47 pol (.46/.14/.6/125/36)
pins: 1, 2

## CECA6.8uF/40V
designator C?
elektrolytische condensator axiaal 6.8uF/40V; Part Number: CECA6.8uF/40V; Component Kind: Standard; Component Type: Standard; Designator: CECA6.8uF/40V; Footprint: cap 48 pol (.46/.2/.6/125/36); Library Reference: CECA6.8uF/40V; Pin Count: 2
footprint cap 48 pol (.46/.2/.6/125/36)
pins: 1, 2

## CECA10uF/63V
designator C?
elektrolytische condensator axiaal 10uF/63V
footprint cap 49 pol (.46/.24/.6/125/36)
pins: 1, 2

## CECA10uF/385V
designator C?
elektrolytische condensator axiaal 10uF/385V
footprint cap 56 pol (1.2/.5/1.4/125/43)
pins: 1, 2

## CECA15uF/16V
designator C?
elektrolytische condensator axiaal 15uF/16V; Part Number: CECA15uF/16V; Component Kind: Standard; Component Type: Standard; Designator: CECA15uF/16V; Footprint: cap 48 pol (.46/.2/.6/125/36); Library Reference: CECA15uF/16V; Pin Count: 2
footprint cap 48 pol (.46/.2/.6/125/36)
pins: 1, 2

## CECA15uF/40V
designator C?
elektrolytische condensator axiaal 15uF/40V; Part Number: CECA15uF/40V; Component Kind: Standard; Component Type: Standard; Designator: CECA15uF/40V; Footprint: cap 48 pol (.46/.2/.6/125/36); Library Reference: CECA15uF/40V; Pin Count: 2
footprint cap 48 pol (.46/.2/.6/125/36)
pins: 1, 2

## CECA15uF/63V
designator C?
elektrolytische condensator axiaal 15uF/63V; Part Number: CECA15uF/63V; Component Kind: Standard; Component Type: Standard; Designator: CECA15uF/63V; Footprint: cap 49 pol (.46/.24/.6/125/36); Library Reference: CECA15uF/63V; Pin Count: 2
footprint cap 49 pol (.46/.24/.6/125/36)
pins: 1, 2

## CECA22uF/10V
designator C?
elektrolytische condensator axiaal 22uF/10V
footprint cap 48 pol (.46/.2/.6/125/36)
pins: 1, 2

## CECA22uF/25V
designator C?
elektrolytische condensator axiaal 22uF/25V; Part Number: CECA22uF/25V; Component Kind: Standard; Component Type: Standard; Designator: CECA22uF/25V; Footprint: cap 48 pol (.46/.2/.6/125/36); Library Reference: CECA22uF/25V; Pin Count: 2
footprint cap 48 pol (.46/.2/.6/125/36)
pins: 1, 2

## CECA22uF/63V
designator C?
elektrolytische condensator axiaal 22uF/63V; Part Number: CECA22uF/63V; Component Kind: Standard; Component Type: Standard; Designator: CECA22uF/63V; Footprint: cap 53 pol (.74/.4/.9/125/43); Library Reference: CECA22uF/63V; Pin Count: 2
footprint cap 53 pol (.74/.4/.9/125/43)
pins: 1, 2

## CECA22uF/385V
designator C?
elektrolytische condensator axiaal 22uF/385V; Part Number: CECA22uF/385V; Component Kind: Standard; Component Type: Standard; Designator: CECA22uF/385V; Footprint: cap 52 pol (1.3/.72/1.5/125/43); Library Reference: CECA22uF/385V; Pin Count: 2
footprint cap 52 pol (1.3/.72/1.5/125/43)
pins: 1, 2

## CECA47uF/25V
designator C?
elektrolytische condensator axiaal 47uF/25V
footprint cap 57 pol (.7/.28/.9/125/36)
pins: 1, 2

## CECA47uF/40V
designator C?
elektrolytische condensator axiaal 47uF/40V
footprint cap 50 pol (.46/.34/.6/125/36)
pins: 1, 2

## CECA47uF/63V
designator C?
elektrolytische condensator axiaal 47uF/63V; Part Number: CECA47uF/63V; Component Kind: Standard; Component Type: Standard; Designator: CECA47uF/63V; Footprint: cap 53 pol (.74/.4/.9/125/43); Library Reference: CECA47uF/63V; Pin Count: 2
footprint cap 53 pol (.74/.4/.9/125/43)
pins: 1, 2

## CECA47uF/385V
designator C?
elektrolytische condensator axiaal 47uF/385V; Part Number: CECA47uF/385V; Component Kind: Standard; Component Type: Standard; Designator: CECA47uF/385V; Footprint: cap 59 pol (1.7/.84/1.9/125/43); Library Reference: CECA47uF/385V; Pin Count: 2
footprint cap 59 pol (1.7/.84/1.9/125/43)
pins: 1, 2

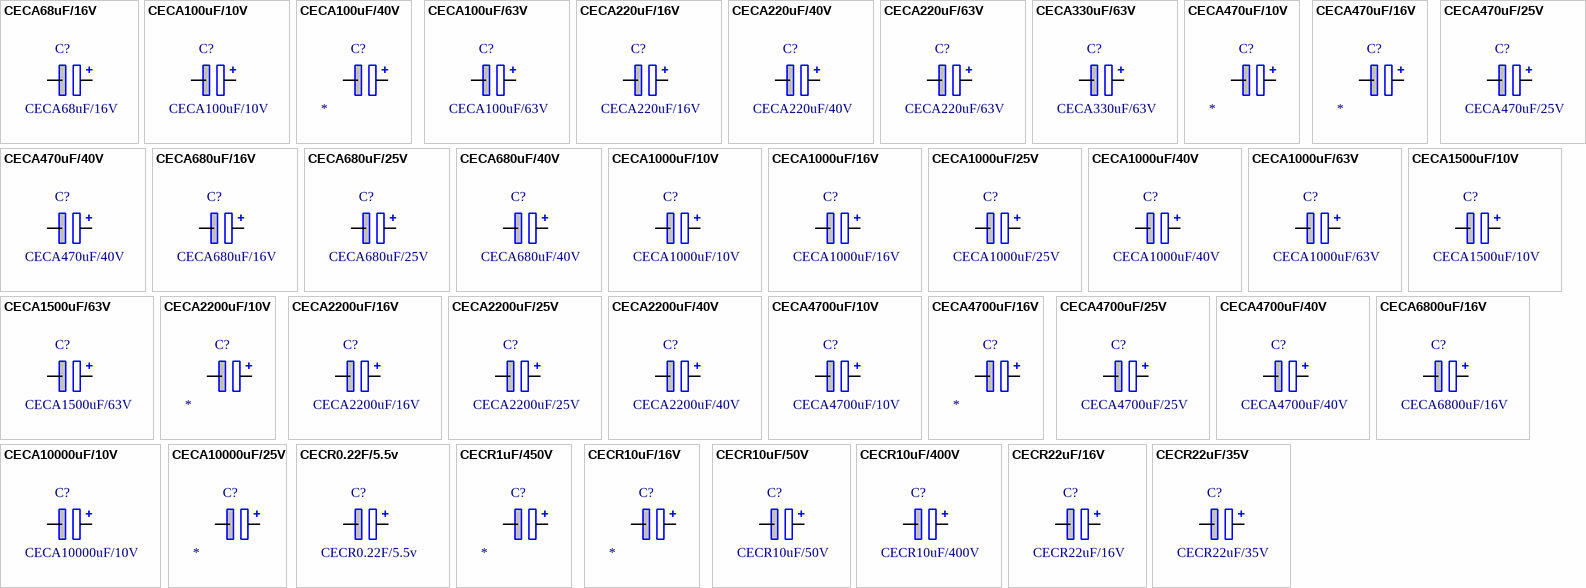
[diagram p221: symbols CECA68uF/16V to CECR22uF/35V]

## CECA68uF/16V
designator C?
elektrolytische condensator axiaal 68uF/16V; Part Number: CECA68uF/16V; Component Kind: Standard; Component Type: Standard; Designator: CECA68uF/16V; Footprint: cap 49 pol (.46/.24/.6/125/36); Library Reference: CECA68uF/16V; Pin Count: 2
footprint cap 49 pol (.46/.24/.6/125/36)
pins: 1, 2

## CECA100uF/10V
designator C?
elektrolytische condensator axiaal 100uF/10V; Part Number: CECA100uF/10V; Component Kind: Standard; Component Type: Standard; Designator: CECA100uF/10V; Footprint: cap 49 pol (.46/.24/.6/125/36); Library Reference: CECA100uF/10V; Pin Count: 2
footprint cap 49 pol (.46/.24/.6/125/36)
pins: 1, 2

## CECA100uF/40V
designator C?
elektrolytische condensator axiaal 100uF/40V
footprint cap 53 pol (.74/.4/.9/125/43)
pins: 1, 2

## CECA100uF/63V
designator C?
elektrolytische condensator axiaal 100uF/63V; Part Number: CECA100uF/63V; Component Kind: Standard; Component Type: Standard; Designator: CECA100uF/63V; Footprint: cap 55 pol (1/.4/1.2/125/43); Library Reference: CECA100uF/63V; Pin Count: 2
footprint cap 55 pol (1/.4/1.2/125/43)
pins: 1, 2

## CECA220uF/16V
designator C?
elektrolytische condensator axiaal 220uF/16V; Part Number: CECA220uF/16V; Component Kind: Standard; Component Type: Standard; Designator: CECA220uF/16V; Footprint: cap 53 pol (.74/.4/.9/125/43); Library Reference: CECA220uF/16V; Pin Count: 2
footprint cap 53 pol (.74/.4/.9/125/43)
pins: 1, 2

## CECA220uF/40V
designator C?
elektrolytische condensator axiaal 220uF/40V; Part Number: CECA220uF/40V; Component Kind: Standard; Component Type: Standard; Designator: CECA220uF/40V; Footprint: cap 53 pol (.74/.4/.9/125/43); Library Reference: CECA220uF/40V; Pin Count: 2
footprint cap 53 pol (.74/.4/.9/125/43)
pins: 1, 2

## CECA220uF/63V
designator C?
elektrolytische condensator axiaal 220uF/63V; Part Number: CECA220uF/63V; Component Kind: Standard; Component Type: Standard; Designator: CECA220uF/63V; Footprint: cap 56 pol (1.2/.5/1.4/125/43); Library Reference: CECA220uF/63V; Pin Count: 2
footprint cap 56 pol (1.2/.5/1.4/125/43)
pins: 1, 2

## CECA330uF/63V
designator C?
elektrolytische condensator axiaal 330uF/63V; Part Number: CECA330uF/63V; Component Kind: Standard; Component Type: Standard; Designator: CECA330uF/63V; Footprint: cap 52 pol (1.3/.72/1.5/125/43); Library Reference: CECA330uF/63V; Pin Count: 2
footprint cap 52 pol (1.3/.72/1.5/125/43)
pins: 1, 2

## CECA470uF/10V
designator C?
elektrolytische condensator axiaal 470uF/10V
footprint cap 51 pol (1.2/.4/1.5/125/43)
pins: 1, 2

## CECA470uF/16V
designator C?
elektrolytische condensator axiaal 470uF/16V
footprint cap 58 pol (.96/.52/1.1/125/43)
pins: 1, 2

## CECA470uF/25V
designator C?
elektrolytische condensator axiaal 470uF/25V; Part Number: CECA470uF/25V; Component Kind: Standard; Component Type: Standard; Designator: CECA470uF/25V; Footprint: cap 51 pol (1.2/.4/1.5/125/43); Library Reference: CECA470uF/25V; Pin Count: 2
footprint cap 51 pol (1.2/.4/1.5/125/43)
pins: 1, 2

## CECA470uF/40V
designator C?
elektrolytische condensator axiaal 470uF/40V; Part Number: CECA470uF/40V; Component Kind: Standard; Component Type: Standard; Designator: CECA470uF/40V; Footprint: cap 56 pol (1.2/.5/1.4/125/43); Library Reference: CECA470uF/40V; Pin Count: 2
footprint cap 56 pol (1.2/.5/1.4/125/43)
pins: 1, 2

## CECA680uF/16V
designator C?
elektrolytische condensator axiaal 680uF/16V; Part Number: CECA680uF/16V; Component Kind: Standard; Component Type: Standard; Designator: CECA680uF/16V; Footprint: cap 51 pol (1.2/.4/1.5/125/43); Library Reference: CECA680uF/16V; Pin Count: 2
footprint cap 51 pol (1.2/.4/1.5/125/43)
pins: 1, 2

## CECA680uF/25V
designator C?
elektrolytische condensator axiaal 680uF/25V; Part Number: CECA680uF/25V; Component Kind: Standard; Component Type: Standard; Designator: CECA680uF/25V; Footprint: cap 51 pol (1.2/.4/1.5/125/43); Library Reference: CECA680uF/25V; Pin Count: 2
footprint cap 51 pol (1.2/.4/1.5/125/43)
pins: 1, 2

## CECA680uF/40V
designator C?
elektrolytische condensator axiaal 680uF/40V; Part Number: CECA680uF/40V; Component Kind: Standard; Component Type: Standard; Designator: CECA680uF/40V; Footprint: cap 52 pol (1.3/.72/1.5/125/43); Library Reference: CECA680uF/40V; Pin Count: 2
footprint cap 52 pol (1.3/.72/1.5/125/43)
pins: 1, 2

## CECA1000uF/10V
designator C?
elektrolytische condensator axiaal 1000uF/10V; Part Number: CECA1000uF/10V; Component Kind: Standard; Component Type: Standard; Designator: CECA1000uF/10V; Footprint: cap 51 pol (1.2/.4/1.5/125/43); Library Reference: CECA1000uF/10V; Pin Count: 2
footprint cap 51 pol (1.2/.4/1.5/125/43)
pins: 1, 2

## CECA1000uF/16V
designator C?
elektrolytische condensator axiaal 1000uF/16V; Part Number: CECA1000uF/16V; Component Kind: Standard; Component Type: Standard; Designator: CECA1000uF/16V; Footprint: cap 51 pol (1.2/.4/1.5/125/43); Library Reference: CECA1000uF/16V; Pin Count: 2
footprint cap 51 pol (1.2/.4/1.5/125/43)
pins: 1, 2

## CECA1000uF/25V
designator C?
elektrolytische condensator axiaal 1000uF/25V; Part Number: CECA1000uF/25V; Component Kind: Standard; Component Type: Standard; Designator: CECA1000uF/25V; Footprint: cap 52 pol (1.3/.72/1.5/125/43); Library Reference: CECA1000uF/25V; Pin Count: 2
footprint cap 52 pol (1.3/.72/1.5/125/43)
pins: 1, 2

## CECA1000uF/40V
designator C?
elektrolytische condensator axiaal 1000uF/40V; Part Number: CECA1000uF/40V; Component Kind: Standard; Component Type: Standard; Designator: CECA1000uF/40V; Footprint: cap 56 pol (1.2/.5/1.4/125/43); Library Reference: CECA1000uF/40V; Pin Count: 2
footprint cap 56 pol (1.2/.5/1.4/125/43)
pins: 1, 2

## CECA1000uF/63V
designator C?
elektrolytische condensator axiaal 1000uF/63V; Part Number: CECA1000uF/63V; Component Kind: Standard; Component Type: Standard; Designator: CECA1000uF/63V; Footprint: cap 59 pol (1.7/.84/1.9/125/43); Library Reference: CECA1000uF/63V; Pin Count: 2
footprint cap 59 pol (1.7/.84/1.9/125/43)
pins: 1, 2

## CECA1500uF/10V
designator C?
elektrolytische condensator axiaal 1500uF/10V; Part Number: CECA1500uF/10V; Component Kind: Standard; Component Type: Standard; Designator: CECA1500uF/10V; Footprint: cap 52 pol (1.3/.72/1.5/125/43); Library Reference: CECA1500uF/10V; Pin Count: 2
footprint cap 52 pol (1.3/.72/1.5/125/43)
pins: 1, 2

## CECA1500uF/63V
designator C?
elektrolytische condensator axiaal 1500uF/63V; Part Number: CECA1500uF/63V; Component Kind: Standard; Component Type: Standard; Designator: CECA1500uF/63V; Footprint: cap 60 pol (2.1/1.02/2.3/125/43); Library Reference: CECA1500uF/63V; Pin Count: 2
footprint cap 60 pol (2.1/1.02/2.3/125/43)
pins: 1, 2

## CECA2200uF/10V
designator C?
elektrolytische condensator axiaal 2200uF/10V
footprint cap 52 pol (1.3/.72/1.5/125/43)
pins: 1, 2

## CECA2200uF/16V
designator C?
elektrolytische condensator axiaal 2200uF/16V; Part Number: CECA2200uF/16V; Component Kind: Standard; Component Type: Standard; Designator: CECA2200uF/16V; Footprint: cap 52 pol (1.3/.72/1.5/125/43); Library Reference: CECA2200uF/16V; Pin Count: 2
footprint cap 52 pol (1.3/.72/1.5/125/43)
pins: 1, 2

## CECA2200uF/25V
designator C?
elektrolytische condensator axiaal 2200uF/25V; Part Number: CECA2200uF/25V; Component Kind: Standard; Component Type: Standard; Designator: CECA2200uF/25V; Footprint: cap 59 pol (1.7/.84/1.9/125/43); Library Reference: CECA2200uF/25V; Pin Count: 2
footprint cap 59 pol (1.7/.84/1.9/125/43)
pins: 1, 2

## CECA2200uF/40V
designator C?
elektrolytische condensator axiaal 2200uF/40V; Part Number: CECA2200uF/40V; Component Kind: Standard; Component Type: Standard; Designator: CECA2200uF/40V; Footprint: cap 52 pol (1.3/.72/1.5/125/43); Library Reference: CECA2200uF/40V; Pin Count: 2
footprint cap 52 pol (1.3/.72/1.5/125/43)
pins: 1, 2

## CECA4700uF/10V
designator C?
elektrolytische condensator axiaal 4700uF/10V; Part Number: CECA4700uF/10V; Component Kind: Standard; Component Type: Standard; Designator: CECA4700uF/10V; Footprint: cap 52 pol (1.3/.72/1.5/125/43); Library Reference: CECA4700uF/10V; Pin Count: 2
footprint cap 52 pol (1.3/.72/1.5/125/43)
pins: 1, 2

## CECA4700uF/16V
designator C?
elektrolytische condensator axiaal 4700uF/16V
footprint cap 59 pol (1.7/.84/1.9/125/43)
pins: 1, 2

## CECA4700uF/25V
designator C?
elektrolytische condensator axiaal 4700uF/25V; Part Number: CECA4700uF/25V; Component Kind: Standard; Component Type: Standard; Designator: CECA4700uF/25V; Footprint: cap 59 pol (1.7/.84/1.9/125/43); Library Reference: CECA4700uF/25V; Pin Count: 2
footprint cap 59 pol (1.7/.84/1.9/125/43)
pins: 1, 2

## CECA4700uF/40V
designator C?
elektrolytische condensator axiaal 4700uF/40V; Part Number: CECA4700uF/40V; Component Kind: Standard; Component Type: Standard; Designator: CECA4700uF/40V; Footprint: cap 59 pol (1.7/.84/1.9/125/43); Library Reference: CECA4700uF/40V; Pin Count: 2
footprint cap 59 pol (1.7/.84/1.9/125/43)
pins: 1, 2

## CECA6800uF/16V
designator C?
elektrolytische condensator axiaal 6800uF/16V; Part Number: CECA6800uF/16V; Component Kind: Standard; Component Type: Standard; Designator: CECA6800uF/16V; Footprint: cap 59 pol (1.7/.84/1.9/125/43); Library Reference: CECA6800uF/16V; Pin Count: 2
footprint cap 59 pol (1.7/.84/1.9/125/43)
pins: 1, 2

## CECA10000uF/10V
designator C?
elektrolytische condensator axiaal 10000uF/10V; Part Number: CECA10000uF/10V; Component Kind: Standard; Component Type: Standard; Designator: CECA10000uF/10V; Footprint: cap 59 pol (1.7/.84/1.9/125/43); Library Reference: CECA10000uF/10V; Pin Count: 2
footprint cap 59 pol (1.7/.84/1.9/125/43)
pins: 1, 2

## CECA10000uF/25V
designator C?
elektrolytische condensator axiaal 10000uF/25V
footprint cap 60 pol (2.1/1.02/2.3/125/43)
pins: 1, 2

## CECR0.22F/5.5v
designator C?
elektrolytische condensator radiaal 0.22F/5.5v
footprint cap 63 pol (D.52/.2/90/36)
pins: 1, 2

## CECR1uF/450V
designator C?
elco radiaal 1uF/450V, Elna
footprint cap 61 pol (D.32/.15/80/36)
pins: 1, 2

## CECR10uF/16V
designator C?
elektrolytische condensator radiaal 10uF/16V
footprint cap 83 pol (D.21/.08/60/28)
pins: 1, 2

## CECR10uF/50V
designator C?
elektrolytische condensator radiaal 10uF/50V; Part Number: CECR10uF/50V; Component Kind: Standard; Component Type: Standard; Designator: CECR10uF/50V; Footprint: cap 62 pol (D.22/.1/75/32); Library Reference: CECR10uF/50V; Pin Count: 2
footprint cap 62 pol (D.22/.1/75/32)
pins: 1, 2

## CECR10uF/400V
designator C?
elektrolytische condensator radiaal 10uF/400V; Part Number: CECR10uF/400V; Component Kind: Standard; Component Type: Standard; Designator: CECR10uF/400V; Footprint: cap 63 pol (D.52/.2/90/36); Library Reference: CECR10uF/400V; Pin Count: 2
footprint cap 63 pol (D.52/.2/90/36)
pins: 1, 2

## CECR22uF/16V
designator C?
elektrolytische condensator radiaal 22uF/16V; Part Number: CECR22uF/16V; Component Kind: Standard; Component Type: Standard; Designator: CECR22uF/16V; Footprint: cap 83 pol (D.21/.08/60/28); Library Reference: CECR22uF/16V; Pin Count: 2
footprint cap 83 pol (D.21/.08/60/28)
pins: 1, 2

## CECR22uF/35V
designator C?
elektrolytische condensator radiaal 22uF/35V; Part Number: CECR22uF/35V; Component Kind: Standard; Component Type: Standard; Designator: CECR22uF/35V; Footprint: cap 62 pol (D.22/.1/75/32); Library Reference: CECR22uF/35V; Pin Count: 2
footprint cap 62 pol (D.22/.1/75/32)
pins: 1, 2

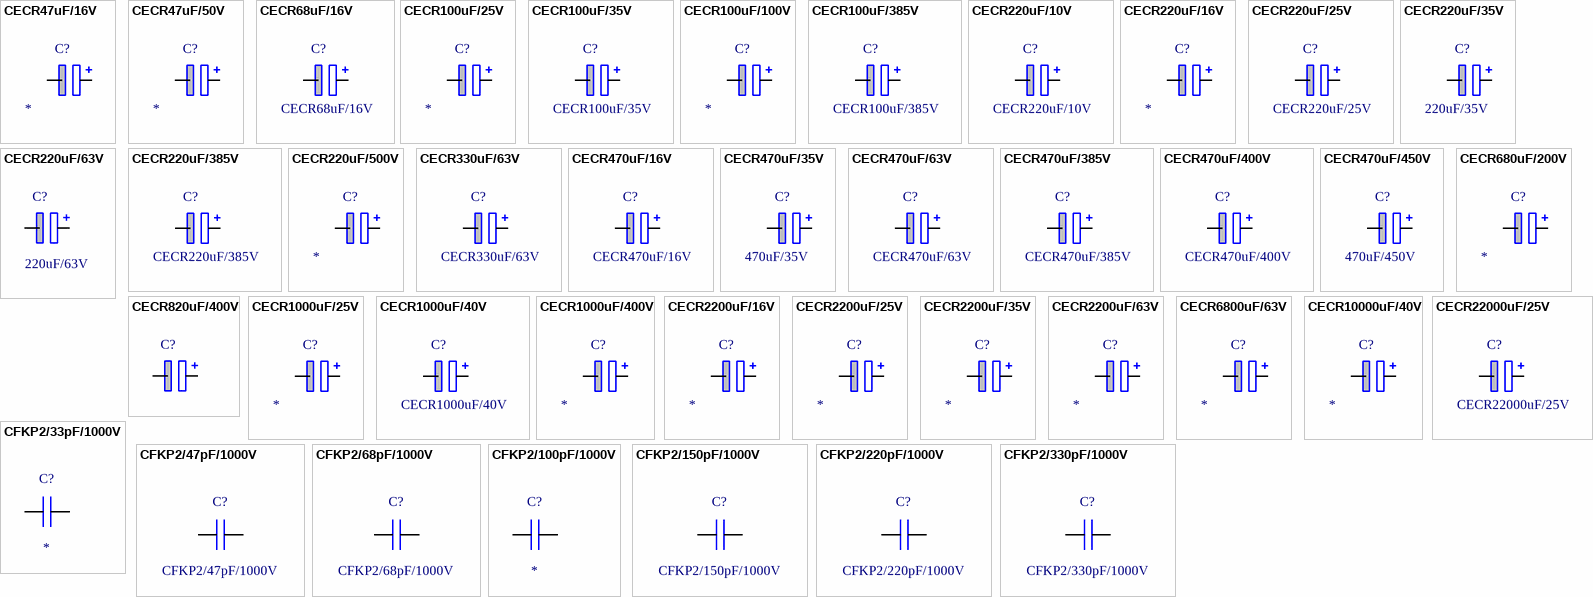
[diagram p222: symbols CECR47uF/16V to CFKP2/330pF/1000V]

## CECR47uF/16V
designator C?
elektrolytische condensator radiaal 47uF/16V
footprint cap 62 pol (D.22/.1/75/32)
pins: 1, 2

## CECR47uF/50V
designator C?
elektrolytische condensator radiaal 47uF/50V
footprint cap 65 pol (D.26/.1/75/32)
pins: 1, 2

## CECR68uF/16V
designator C?
elektrolytische condensator radiaal 68uF/16V; Part Number: CECR68uF/16V; Component Kind: Standard; Component Type: Standard; Designator: CECR68uF/16V; Footprint: cap 62 pol (D.22/.1/75/32); Library Reference: CECR68uF/16V; Pin Count: 2
footprint cap 62 pol (D.22/.1/75/32)
pins: 1, 2

## CECR100uF/25V
designator C?
elektrolytische condensator radiaal 100uF/25V
footprint cap 61 pol (D.32/.15/80/36)
pins: 1, 2

## CECR100uF/35V
designator C?
elektrolytische condensator radiaal 100uF/35V; Part Number: CECR100uF/35V; Component Kind: Standard; Component Type: Standard; Designator: CECR100uF/35V; Footprint: cap 61 pol (D.32/.15/80/36); Library Reference: CECR100uF/35V; Pin Count: 2
footprint cap 61 pol (D.32/.15/80/36)
pins: 1, 2

## CECR100uF/100V
designator C?
elektrolytische condensator radiaal 100uF/100V
footprint cap 93 pol (D.49/.2/90/36)
pins: 1, 2

## CECR100uF/385V
designator C?
elektrolytische condensator radiaal 100uF/385V; Part Number: CECR100uF/385V; Component Kind: Standard; Component Type: Standard; Designator: CECR100uF/385V; Footprint: cap 70 pol (D1/150/59); Library Reference: CECR100uF/385V; Pin Count: 2
footprint cap 70 pol (D1/150/59)
pins: 1, 2

## CECR220uF/10V
designator C?
elektrolytische condensator radiaal 220uF/10V; Part Number: CECR220uF/10V; Component Kind: Standard; Component Type: Standard; Designator: CECR220uF/10V; Footprint: cap 61 pol (D.32/.15/80/36); Library Reference: CECR220uF/10V; Pin Count: 2
footprint cap 61 pol (D.32/.15/80/36)
pins: 1, 2

## CECR220uF/16V
designator C?
elektrolytische condensator radiaal 220uF/16V
footprint cap 82 pol (D.32/.12/80/36)
pins: 1, 2

## CECR220uF/25V
designator C?
elektrolytische condensator radiaal 220uF/25V; Part Number: CECR220uF/25V; Component Kind: Standard; Component Type: Standard; Designator: CECR220uF/25V; Footprint: cap 61 pol (D.32/.15/80/36); Library Reference: CECR220uF/25V; Pin Count: 2
footprint cap 61 pol (D.32/.15/80/36)
pins: 1, 2

## CECR220uF/35V
designator C?, comment 220uF/35V
elektrolytische condensator radiaal 220uF/35V; Part Number: CECR22uF/16V; Component Kind: Standard; Component Type: Standard; Designator: CECR22uF/16V; Footprint: cap 83 pol (D.21/.08/60/28); Library Reference: CECR22uF/16V; Pin Count: 2
footprint cap 64 pol (D.4/.2/80/36)
pins: 1, 2

## CECR220uF/63V
designator C?, comment 220uF/63V
elektrolytische condensator radiaal 220uF/63V
footprint CAP 96 POL(D10/5)
pins: 1, 2

## CECR220uF/385V
designator C?
elektrolytische condensator radiaal 220uF/385V; Part Number: CECR220uF/385V; Component Kind: Standard; Component Type: Standard; Designator: CECR220uF/385V; Footprint: cap 67 pol (D1.4/150/59); Library Reference: CECR220uF/385V; Pin Count: 2
footprint cap 67 pol (D1.4/150/59)
pins: 1, 2

## CECR220uF/500V
designator C?
elco radiaal 220uF/500V, Panasonic ECOS2HP221DA
footprint cap 86 pol (D1.2/.4/175/86)
pins: 1, 2

## CECR330uF/63V
designator C?
elektrolytische condensator radiaal 330uF/63V; Part Number: CECR330uF/63V; Component Kind: Standard; Component Type: Standard; Designator: CECR330uF/63V; Footprint: cap 63 pol (D.52/.2/90/36); Library Reference: CECR330uF/63V; Pin Count: 2
footprint cap 63 pol (D.52/.2/90/36)
pins: 1, 2

## CECR470uF/16V
designator C?
elektrolytische condensator radiaal 470uF/16V; Part Number: CECR470uF/16V; Component Kind: Standard; Component Type: Standard; Designator: CECR470uF/16V; Footprint: cap 64 pol (D.4/.2/80/36); Library Reference: CECR470uF/16V; Pin Count: 2
footprint cap 64 pol (D.4/.2/80/36)
pins: 1, 2

## CECR470uF/35V
designator C?, comment 470uF/35V
elektrolytische condensator radiaal 470uF/35V; Part Number: CECR22uF/16V; Component Kind: Standard; Component Type: Standard; Designator: CECR22uF/16V; Footprint: cap 83 pol (D.21/.08/60/28); Library Reference: CECR22uF/16V; Pin Count: 2
footprint cap 64 pol (D.4/.2/80/36)
pins: 1, 2

## CECR470uF/63V
designator C?
elektrolytische condensator radiaal 470uF/63V; Part Number: CECR470uF/63V; Component Kind: Standard; Component Type: Standard; Designator: CECR470uF/63V; Footprint: cap 63 pol (D.52/.2/90/36); Library Reference: CECR470uF/63V; Pin Count: 2
footprint cap 63 pol (D.52/.2/90/36)
pins: 1, 2

## CECR470uF/385V
designator C?
elektrolytische condensator radiaal 470uF/385V; Part Number: CECR470uF/385V; Component Kind: Standard; Component Type: Standard; Designator: CECR470uF/385V; Footprint: cap 68 pol (D1.6/150/59); Library Reference: CECR470uF/385V; Pin Count: 2
footprint cap 68 pol (D1.6/150/59)
pins: 1, 2

## CECR470uF/400V
designator C?
elektrolytische condensator radiaal 470uF/385V; Part Number: CECR470uF/400V; Component Kind: Standard; Component Type: Standard; Designator: CECR470uF/400V; Footprint: cap 68 pol (D1.6/150/59); Library Reference: CECR470uF/400V; Pin Count: 2
footprint cap 68 pol (D1.6/150/59)
pins: 1, 2